# Altium integrated library Dallas Microcontroller 8-Bit.IntLib: 50 symbols (part 1 of 2)
Pins are listed as number, name and electrical type; pins without a type are passive.

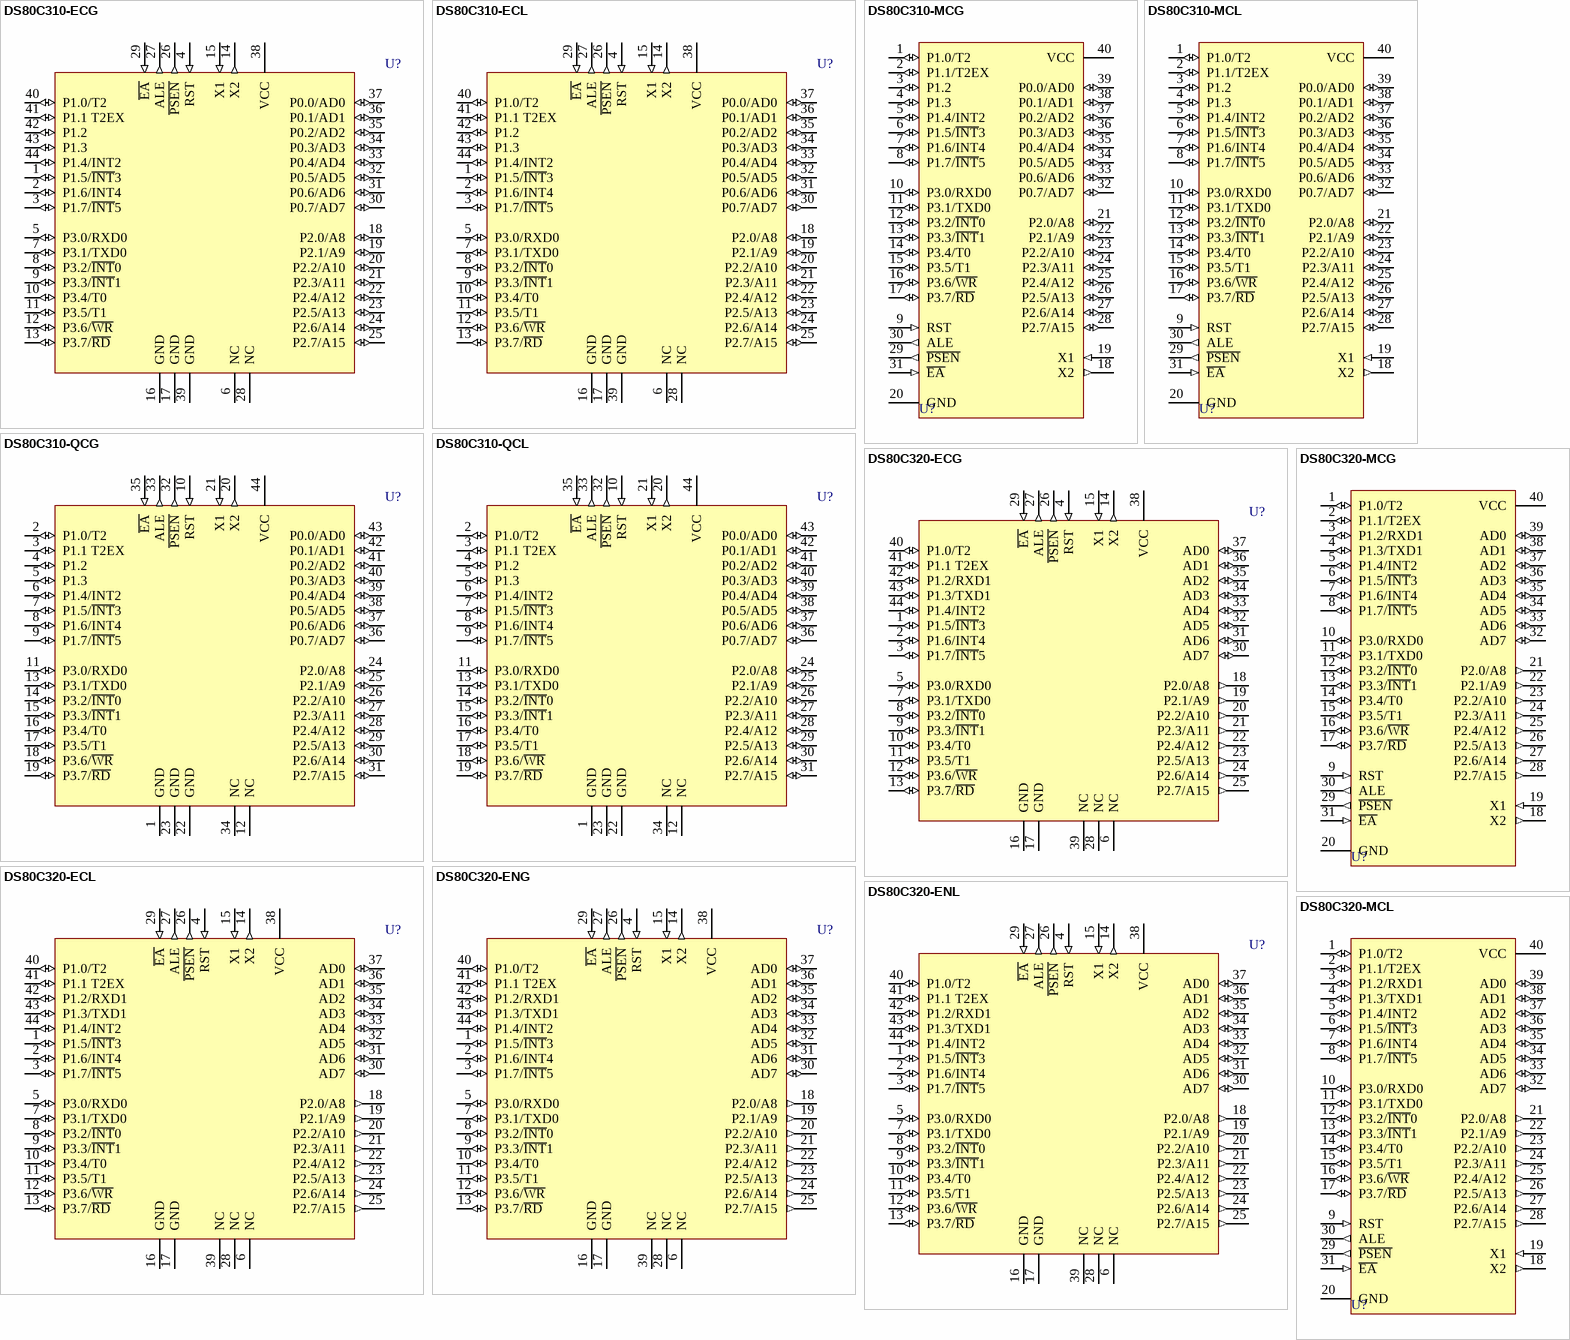
[diagram p0: symbols DS80C310-ECG to DS80C320-MCL]

## DS80C310-ECG
designator U?
High-Speed Micro; PackageDocument: 1995; Note: Pin numbers 6 and 28 are Not Connected (NC); Published: 13-Oct-2000; LatestRevisionDate: 06-Jun-2005; LatestRevisionNote: Stylized 3D Model Added.; DatasheetDocument: Sep-1998; PackageReference: TQFP44; Publisher: Altium Limited; ComponentLink1Description: Manufacturer Link; ComponentLink1URL: http://www.maxim-ic.com/; ComponentLink2Description: Datasheet; ComponentLink2URL: http://pdfserv.maxim-ic.com/en/ds/DS80C310.pdf
footprint TQFP44 (QFP; 44 Leads; Body 10 x 10 mm; Pitch 0.8 mm)
3D model DS80C310-TQFP44 (QFP; 44 Leads; Body 10 x 10 mm; Pitch 0.8 mm)
pins: 1 P1.5/~{INT}3 (io), 2 P1.6/INT4 (io), 3 P1.7/~{INT}5 (io), 4 RST (in), 5 P3.0/RXD0 (io), 6 NC, 7 P3.1/TXD0 (io), 8 P3.2/~{INT}0 (io), 9 P3.3/~{INT}1 (io), 10 P3.4/T0 (io), 11 P3.5/T1 (io), 12 P3.6/~{WR} (io), 13 P3.7/~{RD} (io), 14 X2 (out), 15 X1 (in), 16 GND (power), 17 GND (power), 18 P2.0/A8 (io), 19 P2.1/A9 (io), 20 P2.2/A10 (io), 21 P2.3/A11 (io), 22 P2.4/A12 (io), 23 P2.5/A13 (io), 24 P2.6/A14 (io), 25 P2.7/A15 (io), 26 ~{PSEN} (out), 27 ALE (out), 28 NC, 29 ~{EA} (in), 30 P0.7/AD7 (io), 31 P0.6/AD6 (io), 32 P0.5/AD5 (io), 33 P0.4/AD4 (io), 34 P0.3/AD3 (io), 35 P0.2/AD2 (io), 36 P0.1/AD1 (io), 37 P0.0/AD0 (io), 38 VCC (power), 39 GND (power), 40 P1.0/T2 (io), 41 P1.1 T2EX (io), 42 P1.2 (io), 43 P1.3 (io), 44 P1.4/INT2 (io)

## DS80C310-ECL
designator U?
High-Speed Micro; PackageDocument: 1995; Note: Pin numbers 6 and 28 are Not Connected (NC); Published: 13-Oct-2000; LatestRevisionDate: 06-Jun-2005; LatestRevisionNote: Stylized 3D Model Added.; DatasheetDocument: Sep-1998; PackageReference: TQFP44; Publisher: Altium Limited; ComponentLink1Description: Manufacturer Link; ComponentLink1URL: http://www.maxim-ic.com/; ComponentLink2Description: Datasheet; ComponentLink2URL: http://pdfserv.maxim-ic.com/en/ds/DS80C310.pdf
footprint TQFP44 (QFP; 44 Leads; Body 10 x 10 mm; Pitch 0.8 mm)
3D model DS80C310-TQFP44 (QFP; 44 Leads; Body 10 x 10 mm; Pitch 0.8 mm)
pins: 1 P1.5/~{INT}3 (io), 2 P1.6/INT4 (io), 3 P1.7/~{INT}5 (io), 4 RST (in), 5 P3.0/RXD0 (io), 6 NC, 7 P3.1/TXD0 (io), 8 P3.2/~{INT}0 (io), 9 P3.3/~{INT}1 (io), 10 P3.4/T0 (io), 11 P3.5/T1 (io), 12 P3.6/~{WR} (io), 13 P3.7/~{RD} (io), 14 X2 (out), 15 X1 (in), 16 GND (power), 17 GND (power), 18 P2.0/A8 (io), 19 P2.1/A9 (io), 20 P2.2/A10 (io), 21 P2.3/A11 (io), 22 P2.4/A12 (io), 23 P2.5/A13 (io), 24 P2.6/A14 (io), 25 P2.7/A15 (io), 26 ~{PSEN} (out), 27 ALE (out), 28 NC, 29 ~{EA} (in), 30 P0.7/AD7 (io), 31 P0.6/AD6 (io), 32 P0.5/AD5 (io), 33 P0.4/AD4 (io), 34 P0.3/AD3 (io), 35 P0.2/AD2 (io), 36 P0.1/AD1 (io), 37 P0.0/AD0 (io), 38 VCC (power), 39 GND (power), 40 P1.0/T2 (io), 41 P1.1 T2EX (io), 42 P1.2 (io), 43 P1.3 (io), 44 P1.4/INT2 (io)

## DS80C310-MCG
designator U?
High-Speed Micro; PackageDocument: 1998; Published: 13-Oct-2000; LatestRevisionDate: 06-Jun-2005; LatestRevisionNote: Stylized 3D Model Added.; DatasheetDocument: Sep-1998; PackageReference: DIP40B; Publisher: Altium Limited; ComponentLink1Description: Manufacturer Link; ComponentLink1URL: http://www.maxim-ic.com/; ComponentLink2Description: Datasheet; ComponentLink2URL: http://pdfserv.maxim-ic.com/en/ds/DS80C310.pdf
footprint DIP40B (DIP; 40 Leads; Row Spacing 15.24 mm; Pitch 2.54 mm)
3D model DIP40B (DIP; 40 Leads; Row Spacing 15.24 mm; Pitch 2.54 mm)
pins: 1 P1.0/T2 (io), 2 P1.1/T2EX (io), 3 P1.2 (io), 4 P1.3 (io), 5 P1.4/INT2 (io), 6 P1.5/~{INT}3 (io), 7 P1.6/INT4 (io), 8 P1.7/~{INT}5 (io), 9 RST (in), 10 P3.0/RXD0 (io), 11 P3.1/TXD0 (io), 12 P3.2/~{INT}0 (io), 13 P3.3/~{INT}1 (io), 14 P3.4/T0 (io), 15 P3.5/T1 (io), 16 P3.6/~{WR} (io), 17 P3.7/~{RD} (io), 18 X2 (out), 19 X1 (in), 20 GND (power), 21 P2.0/A8 (io), 22 P2.1/A9 (io), 23 P2.2/A10 (io), 24 P2.3/A11 (io), 25 P2.4/A12 (io), 26 P2.5/A13 (io), 27 P2.6/A14 (io), 28 P2.7/A15 (io), 29 ~{PSEN} (out), 30 ALE (out), 31 ~{EA} (in), 32 P0.7/AD7 (io), 33 P0.6/AD6 (io), 34 P0.5/AD5 (io), 35 P0.4/AD4 (io), 36 P0.3/AD3 (io), 37 P0.2/AD2 (io), 38 P0.1/AD1 (io), 39 P0.0/AD0 (io), 40 VCC (power)

## DS80C310-MCL
designator U?
High-Speed Micro; PackageDocument: 1998; Published: 13-Oct-2000; LatestRevisionDate: 06-Jun-2005; LatestRevisionNote: Stylized 3D Model Added.; DatasheetDocument: Sep-1998; PackageReference: DIP40B; Publisher: Altium Limited; ComponentLink1Description: Manufacturer Link; ComponentLink1URL: http://www.maxim-ic.com/; ComponentLink2Description: Datasheet; ComponentLink2URL: http://pdfserv.maxim-ic.com/en/ds/DS80C310.pdf
footprint DIP40B (DIP; 40 Leads; Row Spacing 15.24 mm; Pitch 2.54 mm)
3D model DIP40B (DIP; 40 Leads; Row Spacing 15.24 mm; Pitch 2.54 mm)
pins: 1 P1.0/T2 (io), 2 P1.1/T2EX (io), 3 P1.2 (io), 4 P1.3 (io), 5 P1.4/INT2 (io), 6 P1.5/~{INT}3 (io), 7 P1.6/INT4 (io), 8 P1.7/~{INT}5 (io), 9 RST (in), 10 P3.0/RXD0 (io), 11 P3.1/TXD0 (io), 12 P3.2/~{INT}0 (io), 13 P3.3/~{INT}1 (io), 14 P3.4/T0 (io), 15 P3.5/T1 (io), 16 P3.6/~{WR} (io), 17 P3.7/~{RD} (io), 18 X2 (out), 19 X1 (in), 20 GND (power), 21 P2.0/A8 (io), 22 P2.1/A9 (io), 23 P2.2/A10 (io), 24 P2.3/A11 (io), 25 P2.4/A12 (io), 26 P2.5/A13 (io), 27 P2.6/A14 (io), 28 P2.7/A15 (io), 29 ~{PSEN} (out), 30 ALE (out), 31 ~{EA} (in), 32 P0.7/AD7 (io), 33 P0.6/AD6 (io), 34 P0.5/AD5 (io), 35 P0.4/AD4 (io), 36 P0.3/AD3 (io), 37 P0.2/AD2 (io), 38 P0.1/AD1 (io), 39 P0.0/AD0 (io), 40 VCC (power)

## DS80C310-QCG
designator U?
High-Speed Micro; PackageDocument: 1999; Note: Pin numbers 12 and 34 are Not Connected (NC); Published: 13-Oct-2000; LatestRevisionDate: 06-Jun-2005; LatestRevisionNote: Stylized 3D Model Added.; DatasheetDocument: Sep-1998; PackageReference: PLCC44; Publisher: Altium Limited; Code_IPC: PLCC-44; ComponentLink1Description: Manufacturer Link; ComponentLink1URL: http://www.maxim-ic.com/; ComponentLink2Description: Datasheet; ComponentLink2URL: http://pdfserv.maxim-ic.com/en/ds/DS80C310.pdf
footprint PLCC44 (Leaded Chip Carrier; 44 Leads; Body 16.5 x 16.5 mm)
3D model DS80C310-PLCC44 (Leaded Chip Carrier; 44 Leads; Body 16.5 x 16.5 mm)
pins: 1 GND (power), 2 P1.0/T2 (io), 3 P1.1 T2EX (io), 4 P1.2 (io), 5 P1.3 (io), 6 P1.4/INT2 (io), 7 P1.5/~{INT}3 (io), 8 P1.6/INT4 (io), 9 P1.7/~{INT}5 (io), 10 RST (in), 11 P3.0/RXD0 (io), 12 NC, 13 P3.1/TXD0 (io), 14 P3.2/~{INT}0 (io), 15 P3.3/~{INT}1 (io), 16 P3.4/T0 (io), 17 P3.5/T1 (io), 18 P3.6/~{WR} (io), 19 P3.7/~{RD} (io), 20 X2 (out), 21 X1 (in), 22 GND (power), 23 GND (power), 24 P2.0/A8 (io), 25 P2.1/A9 (io), 26 P2.2/A10 (io), 27 P2.3/A11 (io), 28 P2.4/A12 (io), 29 P2.5/A13 (io), 30 P2.6/A14 (io), 31 P2.7/A15 (io), 32 ~{PSEN} (out), 33 ALE (out), 34 NC, 35 ~{EA} (in), 36 P0.7/AD7 (io), 37 P0.6/AD6 (io), 38 P0.5/AD5 (io), 39 P0.4/AD4 (io), 40 P0.3/AD3 (io), 41 P0.2/AD2 (io), 42 P0.1/AD1 (io), 43 P0.0/AD0 (io), 44 VCC (power)

## DS80C310-QCL
designator U?
High-Speed Micro; PackageDocument: 1999; Note: Pin numbers 12 and 34 are Not Connected (NC); Published: 13-Oct-2000; LatestRevisionDate: 06-Jun-2005; LatestRevisionNote: Stylized 3D Model Added.; DatasheetDocument: Sep-1998; PackageReference: PLCC44; Publisher: Altium Limited; Code_IPC: PLCC-44; ComponentLink1Description: Manufacturer Link; ComponentLink1URL: http://www.maxim-ic.com/; ComponentLink2Description: Datasheet; ComponentLink2URL: http://pdfserv.maxim-ic.com/en/ds/DS80C310.pdf
footprint PLCC44 (Leaded Chip Carrier; 44 Leads; Body 16.5 x 16.5 mm)
3D model DS80C310-PLCC44 (Leaded Chip Carrier; 44 Leads; Body 16.5 x 16.5 mm)
pins: 1 GND (power), 2 P1.0/T2 (io), 3 P1.1 T2EX (io), 4 P1.2 (io), 5 P1.3 (io), 6 P1.4/INT2 (io), 7 P1.5/~{INT}3 (io), 8 P1.6/INT4 (io), 9 P1.7/~{INT}5 (io), 10 RST (in), 11 P3.0/RXD0 (io), 12 NC, 13 P3.1/TXD0 (io), 14 P3.2/~{INT}0 (io), 15 P3.3/~{INT}1 (io), 16 P3.4/T0 (io), 17 P3.5/T1 (io), 18 P3.6/~{WR} (io), 19 P3.7/~{RD} (io), 20 X2 (out), 21 X1 (in), 22 GND (power), 23 GND (power), 24 P2.0/A8 (io), 25 P2.1/A9 (io), 26 P2.2/A10 (io), 27 P2.3/A11 (io), 28 P2.4/A12 (io), 29 P2.5/A13 (io), 30 P2.6/A14 (io), 31 P2.7/A15 (io), 32 ~{PSEN} (out), 33 ALE (out), 34 NC, 35 ~{EA} (in), 36 P0.7/AD7 (io), 37 P0.6/AD6 (io), 38 P0.5/AD5 (io), 39 P0.4/AD4 (io), 40 P0.3/AD3 (io), 41 P0.2/AD2 (io), 42 P0.1/AD1 (io), 43 P0.0/AD0 (io), 44 VCC (power)

## DS80C320-ECG
designator U?
High-Speed/Low-Power Micro; PackageDocument: 1995; Note: Pin numbers 6, 28 and 39 are Not Connected (NC); Published: 13-Oct-2000; LatestRevisionDate: 06-Jun-2005; LatestRevisionNote: Stylized 3D Model Added.; DatasheetDocument: 22-Sep-1999; PackageReference: TQFP44; Publisher: Altium Limited; ComponentLink1Description: Manufacturer Link; ComponentLink1URL: http://www.maxim-ic.com/; ComponentLink2Description: Datasheet; ComponentLink2URL: http://pdfserv.maxim-ic.com/en/ds/DS80C320.pdf
footprint TQFP44 (QFP; 44 Leads; Body 10 x 10 mm; Pitch 0.8 mm)
3D model DS80C320-TQFP44 (QFP; 44 Leads; Body 10 x 10 mm; Pitch 0.8 mm)
pins: 1 P1.5/~{INT}3 (io), 2 P1.6/INT4 (io), 3 P1.7/~{INT}5 (io), 4 RST (in), 5 P3.0/RXD0 (io), 6 NC, 7 P3.1/TXD0 (io), 8 P3.2/~{INT}0 (io), 9 P3.3/~{INT}1 (io), 10 P3.4/T0 (io), 11 P3.5/T1 (io), 12 P3.6/~{WR} (io), 13 P3.7/~{RD} (io), 14 X2 (out), 15 X1 (in), 16 GND (power), 17 GND (power), 18 P2.0/A8 (out), 19 P2.1/A9 (out), 20 P2.2/A10 (out), 21 P2.3/A11 (out), 22 P2.4/A12 (out), 23 P2.5/A13 (out), 24 P2.6/A14 (out), 25 P2.7/A15 (out), 26 ~{PSEN} (out), 27 ALE (out), 28 NC, 29 ~{EA} (in), 30 AD7 (io), 31 AD6 (io), 32 AD5 (io), 33 AD4 (io), 34 AD3 (io), 35 AD2 (io), 36 AD1 (io), 37 AD0 (io), 38 VCC (power), 39 NC, 40 P1.0/T2 (io), 41 P1.1 T2EX (io), 42 P1.2/RXD1 (io), 43 P1.3/TXD1 (io), 44 P1.4/INT2 (io)

## DS80C320-ECL
designator U?
High-Speed/Low-Power Micro; PackageDocument: 1995; Note: Pin numbers 6, 28 and 39 are Not Connected (NC); Published: 13-Oct-2000; LatestRevisionDate: 06-Jun-2005; LatestRevisionNote: Stylized 3D Model Added.; DatasheetDocument: 22-Sep-1999; PackageReference: TQFP44; Publisher: Altium Limited; ComponentLink1Description: Manufacturer Link; ComponentLink1URL: http://www.maxim-ic.com/; ComponentLink2Description: Datasheet; ComponentLink2URL: http://pdfserv.maxim-ic.com/en/ds/DS80C320.pdf
footprint TQFP44 (QFP; 44 Leads; Body 10 x 10 mm; Pitch 0.8 mm)
3D model DS80C320-TQFP44 (QFP; 44 Leads; Body 10 x 10 mm; Pitch 0.8 mm)
pins: 1 P1.5/~{INT}3 (io), 2 P1.6/INT4 (io), 3 P1.7/~{INT}5 (io), 4 RST (in), 5 P3.0/RXD0 (io), 6 NC, 7 P3.1/TXD0 (io), 8 P3.2/~{INT}0 (io), 9 P3.3/~{INT}1 (io), 10 P3.4/T0 (io), 11 P3.5/T1 (io), 12 P3.6/~{WR} (io), 13 P3.7/~{RD} (io), 14 X2 (out), 15 X1 (in), 16 GND (power), 17 GND (power), 18 P2.0/A8 (out), 19 P2.1/A9 (out), 20 P2.2/A10 (out), 21 P2.3/A11 (out), 22 P2.4/A12 (out), 23 P2.5/A13 (out), 24 P2.6/A14 (out), 25 P2.7/A15 (out), 26 ~{PSEN} (out), 27 ALE (out), 28 NC, 29 ~{EA} (in), 30 AD7 (io), 31 AD6 (io), 32 AD5 (io), 33 AD4 (io), 34 AD3 (io), 35 AD2 (io), 36 AD1 (io), 37 AD0 (io), 38 VCC (power), 39 NC, 40 P1.0/T2 (io), 41 P1.1 T2EX (io), 42 P1.2/RXD1 (io), 43 P1.3/TXD1 (io), 44 P1.4/INT2 (io)

## DS80C320-ENG
designator U?
High-Speed/Low-Power Micro; PackageDocument: 1995; Note: Pin numbers 6, 28 and 39 are Not Connected (NC); Published: 13-Oct-2000; LatestRevisionDate: 06-Jun-2005; LatestRevisionNote: Stylized 3D Model Added.; DatasheetDocument: 22-Sep-1999; PackageReference: TQFP44; Publisher: Altium Limited; ComponentLink1Description: Manufacturer Link; ComponentLink1URL: http://www.maxim-ic.com/; ComponentLink2Description: Datasheet; ComponentLink2URL: http://pdfserv.maxim-ic.com/en/ds/DS80C320.pdf
footprint TQFP44 (QFP; 44 Leads; Body 10 x 10 mm; Pitch 0.8 mm)
3D model DS80C320-TQFP44 (QFP; 44 Leads; Body 10 x 10 mm; Pitch 0.8 mm)
pins: 1 P1.5/~{INT}3 (io), 2 P1.6/INT4 (io), 3 P1.7/~{INT}5 (io), 4 RST (in), 5 P3.0/RXD0 (io), 6 NC, 7 P3.1/TXD0 (io), 8 P3.2/~{INT}0 (io), 9 P3.3/~{INT}1 (io), 10 P3.4/T0 (io), 11 P3.5/T1 (io), 12 P3.6/~{WR} (io), 13 P3.7/~{RD} (io), 14 X2 (out), 15 X1 (in), 16 GND (power), 17 GND (power), 18 P2.0/A8 (out), 19 P2.1/A9 (out), 20 P2.2/A10 (out), 21 P2.3/A11 (out), 22 P2.4/A12 (out), 23 P2.5/A13 (out), 24 P2.6/A14 (out), 25 P2.7/A15 (out), 26 ~{PSEN} (out), 27 ALE (out), 28 NC, 29 ~{EA} (in), 30 AD7 (io), 31 AD6 (io), 32 AD5 (io), 33 AD4 (io), 34 AD3 (io), 35 AD2 (io), 36 AD1 (io), 37 AD0 (io), 38 VCC (power), 39 NC, 40 P1.0/T2 (io), 41 P1.1 T2EX (io), 42 P1.2/RXD1 (io), 43 P1.3/TXD1 (io), 44 P1.4/INT2 (io)

## DS80C320-ENL
designator U?
High-Speed/Low-Power Micro; PackageDocument: 1995; Note: Pin numbers 6, 28 and 39 are Not Connected (NC); Published: 13-Oct-2000; LatestRevisionDate: 06-Jun-2005; LatestRevisionNote: Stylized 3D Model Added.; DatasheetDocument: 22-Sep-1999; PackageReference: TQFP44; Publisher: Altium Limited; ComponentLink1Description: Manufacturer Link; ComponentLink1URL: http://www.maxim-ic.com/; ComponentLink2Description: Datasheet; ComponentLink2URL: http://pdfserv.maxim-ic.com/en/ds/DS80C320.pdf; ComponentLink3Description: Discontinuation Notice; ComponentLink3URL: http://www.maxim-ic.com/qa/pdfs/non-obsolescence-letter.pdf
footprint TQFP44 (QFP; 44 Leads; Body 10 x 10 mm; Pitch 0.8 mm)
3D model DS80C320-TQFP44 (QFP; 44 Leads; Body 10 x 10 mm; Pitch 0.8 mm)
pins: 1 P1.5/~{INT}3 (io), 2 P1.6/INT4 (io), 3 P1.7/~{INT}5 (io), 4 RST (in), 5 P3.0/RXD0 (io), 6 NC, 7 P3.1/TXD0 (io), 8 P3.2/~{INT}0 (io), 9 P3.3/~{INT}1 (io), 10 P3.4/T0 (io), 11 P3.5/T1 (io), 12 P3.6/~{WR} (io), 13 P3.7/~{RD} (io), 14 X2 (out), 15 X1 (in), 16 GND (power), 17 GND (power), 18 P2.0/A8 (out), 19 P2.1/A9 (out), 20 P2.2/A10 (out), 21 P2.3/A11 (out), 22 P2.4/A12 (out), 23 P2.5/A13 (out), 24 P2.6/A14 (out), 25 P2.7/A15 (out), 26 ~{PSEN} (out), 27 ALE (out), 28 NC, 29 ~{EA} (in), 30 AD7 (io), 31 AD6 (io), 32 AD5 (io), 33 AD4 (io), 34 AD3 (io), 35 AD2 (io), 36 AD1 (io), 37 AD0 (io), 38 VCC (power), 39 NC, 40 P1.0/T2 (io), 41 P1.1 T2EX (io), 42 P1.2/RXD1 (io), 43 P1.3/TXD1 (io), 44 P1.4/INT2 (io)

## DS80C320-MCG
designator U?
High-Speed/Low-Power Micro; PackageDocument: 1998; Published: 13-Oct-2000; LatestRevisionDate: 06-Jun-2005; LatestRevisionNote: Stylized 3D Model Added.; DatasheetDocument: 22-Sep-1999; PackageReference: DIP40B; Publisher: Altium Limited; ComponentLink1Description: Manufacturer Link; ComponentLink1URL: http://www.maxim-ic.com/; ComponentLink2Description: Datasheet; ComponentLink2URL: http://pdfserv.maxim-ic.com/en/ds/DS80C320.pdf
footprint DIP40B (DIP; 40 Leads; Row Spacing 15.24 mm; Pitch 2.54 mm)
12/04/2005 DIP40B (DIP; 40 Leads; Row Spacing 15.24 mm; Pitch 2.54 mm)
pins: 1 P1.0/T2 (io), 2 P1.1/T2EX (io), 3 P1.2/RXD1 (io), 4 P1.3/TXD1 (io), 5 P1.4/INT2 (io), 6 P1.5/~{INT}3 (io), 7 P1.6/INT4 (io), 8 P1.7/~{INT}5 (io), 9 RST (in), 10 P3.0/RXD0 (io), 11 P3.1/TXD0 (io), 12 P3.2/~{INT}0 (io), 13 P3.3/~{INT}1 (io), 14 P3.4/T0 (io), 15 P3.5/T1 (io), 16 P3.6/~{WR} (io), 17 P3.7/~{RD} (io), 18 X2 (out), 19 X1 (in), 20 GND (power), 21 P2.0/A8 (out), 22 P2.1/A9 (out), 23 P2.2/A10 (out), 24 P2.3/A11 (out), 25 P2.4/A12 (out), 26 P2.5/A13 (out), 27 P2.6/A14 (out), 28 P2.7/A15 (out), 29 ~{PSEN} (out), 30 ALE (out), 31 ~{EA} (in), 32 AD7 (io), 33 AD6 (io), 34 AD5 (io), 35 AD4 (io), 36 AD3 (io), 37 AD2 (io), 38 AD1 (io), 39 AD0 (io), 40 VCC (power)

## DS80C320-MCL
designator U?
High-Speed/Low-Power Micro; PackageDocument: 1998; Published: 13-Oct-2000; LatestRevisionDate: 06-Jun-2005; LatestRevisionNote: Stylized 3D Model Added.; DatasheetDocument: 22-Sep-1999; PackageReference: DIP40B; Publisher: Altium Limited; ComponentLink1Description: Manufacturer Link; ComponentLink1URL: http://www.maxim-ic.com/; ComponentLink2Description: Datasheet; ComponentLink2URL: http://pdfserv.maxim-ic.com/en/ds/DS80C320.pdf
footprint DIP40B (DIP; 40 Leads; Row Spacing 15.24 mm; Pitch 2.54 mm)
3D model DIP40B (DIP; 40 Leads; Row Spacing 15.24 mm; Pitch 2.54 mm)
pins: 1 P1.0/T2 (io), 2 P1.1/T2EX (io), 3 P1.2/RXD1 (io), 4 P1.3/TXD1 (io), 5 P1.4/INT2 (io), 6 P1.5/~{INT}3 (io), 7 P1.6/INT4 (io), 8 P1.7/~{INT}5 (io), 9 RST (in), 10 P3.0/RXD0 (io), 11 P3.1/TXD0 (io), 12 P3.2/~{INT}0 (io), 13 P3.3/~{INT}1 (io), 14 P3.4/T0 (io), 15 P3.5/T1 (io), 16 P3.6/~{WR} (io), 17 P3.7/~{RD} (io), 18 X2 (out), 19 X1 (in), 20 GND (power), 21 P2.0/A8 (out), 22 P2.1/A9 (out), 23 P2.2/A10 (out), 24 P2.3/A11 (out), 25 P2.4/A12 (out), 26 P2.5/A13 (out), 27 P2.6/A14 (out), 28 P2.7/A15 (out), 29 ~{PSEN} (out), 30 ALE (out), 31 ~{EA} (in), 32 AD7 (io), 33 AD6 (io), 34 AD5 (io), 35 AD4 (io), 36 AD3 (io), 37 AD2 (io), 38 AD1 (io), 39 AD0 (io), 40 VCC (power)

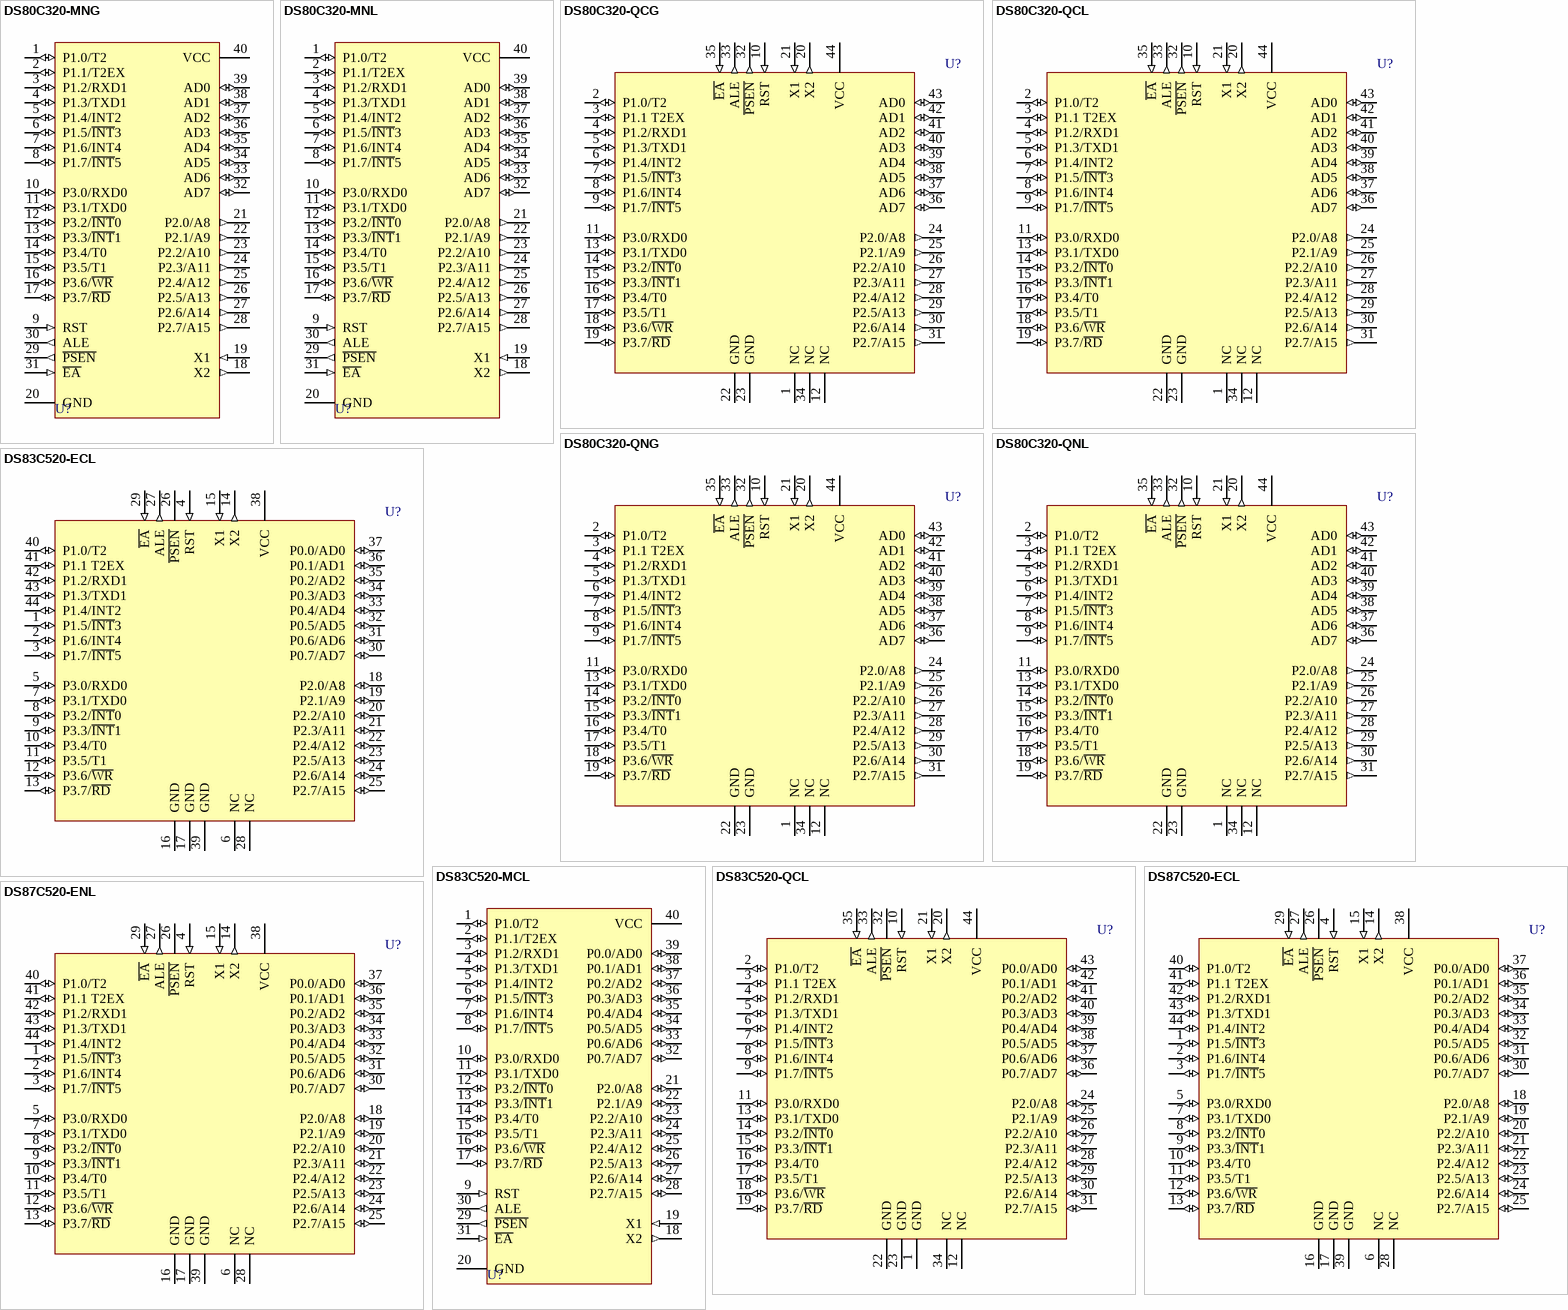
[diagram p1: symbols DS80C320-MNG to DS87C520-ENL]

## DS80C320-MNG
designator U?
High-Speed/Low-Power Micro; PackageDocument: 1998; Published: 13-Oct-2000; LatestRevisionDate: 06-Jun-2005; LatestRevisionNote: Stylized 3D Model Added.; DatasheetDocument: 22-Sep-1999; PackageReference: DIP40B; Publisher: Altium Limited; ComponentLink1Description: Manufacturer Link; ComponentLink1URL: http://www.maxim-ic.com/; ComponentLink2Description: Datasheet; ComponentLink2URL: http://pdfserv.maxim-ic.com/en/ds/DS80C320.pdf
footprint DIP40B (DIP; 40 Leads; Row Spacing 15.24 mm; Pitch 2.54 mm)
3D model DIP40B (DIP; 40 Leads; Row Spacing 15.24 mm; Pitch 2.54 mm)
pins: 1 P1.0/T2 (io), 2 P1.1/T2EX (io), 3 P1.2/RXD1 (io), 4 P1.3/TXD1 (io), 5 P1.4/INT2 (io), 6 P1.5/~{INT}3 (io), 7 P1.6/INT4 (io), 8 P1.7/~{INT}5 (io), 9 RST (in), 10 P3.0/RXD0 (io), 11 P3.1/TXD0 (io), 12 P3.2/~{INT}0 (io), 13 P3.3/~{INT}1 (io), 14 P3.4/T0 (io), 15 P3.5/T1 (io), 16 P3.6/~{WR} (io), 17 P3.7/~{RD} (io), 18 X2 (out), 19 X1 (in), 20 GND (power), 21 P2.0/A8 (out), 22 P2.1/A9 (out), 23 P2.2/A10 (out), 24 P2.3/A11 (out), 25 P2.4/A12 (out), 26 P2.5/A13 (out), 27 P2.6/A14 (out), 28 P2.7/A15 (out), 29 ~{PSEN} (out), 30 ALE (out), 31 ~{EA} (in), 32 AD7 (io), 33 AD6 (io), 34 AD5 (io), 35 AD4 (io), 36 AD3 (io), 37 AD2 (io), 38 AD1 (io), 39 AD0 (io), 40 VCC (power)

## DS80C320-MNL
designator U?
High-Speed/Low-Power Micro; PackageDocument: 1998; Published: 13-Oct-2000; LatestRevisionDate: 06-Jun-2005; LatestRevisionNote: Stylized 3D Model Added.; DatasheetDocument: 22-Sep-1999; PackageReference: DIP40B; Publisher: Altium Limited; ComponentLink1Description: Manufacturer Link; ComponentLink1URL: http://www.maxim-ic.com/; ComponentLink2Description: Datasheet; ComponentLink2URL: http://pdfserv.maxim-ic.com/en/ds/DS80C320.pdf
footprint DIP40B (DIP; 40 Leads; Row Spacing 15.24 mm; Pitch 2.54 mm)
3D model DIP40B (DIP; 40 Leads; Row Spacing 15.24 mm; Pitch 2.54 mm)
pins: 1 P1.0/T2 (io), 2 P1.1/T2EX (io), 3 P1.2/RXD1 (io), 4 P1.3/TXD1 (io), 5 P1.4/INT2 (io), 6 P1.5/~{INT}3 (io), 7 P1.6/INT4 (io), 8 P1.7/~{INT}5 (io), 9 RST (in), 10 P3.0/RXD0 (io), 11 P3.1/TXD0 (io), 12 P3.2/~{INT}0 (io), 13 P3.3/~{INT}1 (io), 14 P3.4/T0 (io), 15 P3.5/T1 (io), 16 P3.6/~{WR} (io), 17 P3.7/~{RD} (io), 18 X2 (out), 19 X1 (in), 20 GND (power), 21 P2.0/A8 (out), 22 P2.1/A9 (out), 23 P2.2/A10 (out), 24 P2.3/A11 (out), 25 P2.4/A12 (out), 26 P2.5/A13 (out), 27 P2.6/A14 (out), 28 P2.7/A15 (out), 29 ~{PSEN} (out), 30 ALE (out), 31 ~{EA} (in), 32 AD7 (io), 33 AD6 (io), 34 AD5 (io), 35 AD4 (io), 36 AD3 (io), 37 AD2 (io), 38 AD1 (io), 39 AD0 (io), 40 VCC (power)

## DS80C320-QCG
designator U?
High-Speed/Low-Power Micro; PackageDocument: 1999; Note: Pin numbers 1, 12 and 34 are Not Connected (NC); Published: 13-Oct-2000; LatestRevisionDate: 06-Jun-2005; LatestRevisionNote: Stylized 3D Model Added.; DatasheetDocument: 22-Sep-1999; PackageReference: PLCC44; Publisher: Altium Limited; Code_IPC: PLCC-44; ComponentLink1Description: Manufacturer Link; ComponentLink1URL: http://www.maxim-ic.com/; ComponentLink2Description: Datasheet; ComponentLink2URL: http://pdfserv.maxim-ic.com/en/ds/DS80C320.pdf
footprint PLCC44 (Leaded Chip Carrier; 44 Leads; Body 16.5 x 16.5 mm)
3D model DS80C320-PLCC44 (Leaded Chip Carrier; 44 Leads; Body 16.5 x 16.5 mm)
pins: 1 NC, 2 P1.0/T2 (io), 3 P1.1 T2EX (io), 4 P1.2/RXD1 (io), 5 P1.3/TXD1 (io), 6 P1.4/INT2 (io), 7 P1.5/~{INT}3 (io), 8 P1.6/INT4 (io), 9 P1.7/~{INT}5 (io), 10 RST (in), 11 P3.0/RXD0 (io), 12 NC, 13 P3.1/TXD0 (io), 14 P3.2/~{INT}0 (io), 15 P3.3/~{INT}1 (io), 16 P3.4/T0 (io), 17 P3.5/T1 (io), 18 P3.6/~{WR} (io), 19 P3.7/~{RD} (io), 20 X2 (out), 21 X1 (in), 22 GND (power), 23 GND (power), 24 P2.0/A8 (out), 25 P2.1/A9 (out), 26 P2.2/A10 (out), 27 P2.3/A11 (out), 28 P2.4/A12 (out), 29 P2.5/A13 (out), 30 P2.6/A14 (out), 31 P2.7/A15 (out), 32 ~{PSEN} (out), 33 ALE (out), 34 NC, 35 ~{EA} (in), 36 AD7 (io), 37 AD6 (io), 38 AD5 (io), 39 AD4 (io), 40 AD3 (io), 41 AD2 (io), 42 AD1 (io), 43 AD0 (io), 44 VCC (power)

## DS80C320-QCL
designator U?
High-Speed/Low-Power Micro; PackageDocument: 1999; Note: Pin numbers 1, 12 and 34 are Not Connected (NC); Published: 13-Oct-2000; LatestRevisionDate: 06-Jun-2005; LatestRevisionNote: Stylized 3D Model Added.; DatasheetDocument: 22-Sep-1999; PackageReference: PLCC44; Publisher: Altium Limited; Code_IPC: PLCC-44; ComponentLink1Description: Manufacturer Link; ComponentLink1URL: http://www.maxim-ic.com/; ComponentLink2Description: Datasheet; ComponentLink2URL: http://pdfserv.maxim-ic.com/en/ds/DS80C320.pdf
footprint PLCC44 (Leaded Chip Carrier; 44 Leads; Body 16.5 x 16.5 mm)
3D model DS80C320-PLCC44 (Leaded Chip Carrier; 44 Leads; Body 16.5 x 16.5 mm)
pins: 1 NC, 2 P1.0/T2 (io), 3 P1.1 T2EX (io), 4 P1.2/RXD1 (io), 5 P1.3/TXD1 (io), 6 P1.4/INT2 (io), 7 P1.5/~{INT}3 (io), 8 P1.6/INT4 (io), 9 P1.7/~{INT}5 (io), 10 RST (in), 11 P3.0/RXD0 (io), 12 NC, 13 P3.1/TXD0 (io), 14 P3.2/~{INT}0 (io), 15 P3.3/~{INT}1 (io), 16 P3.4/T0 (io), 17 P3.5/T1 (io), 18 P3.6/~{WR} (io), 19 P3.7/~{RD} (io), 20 X2 (out), 21 X1 (in), 22 GND (power), 23 GND (power), 24 P2.0/A8 (out), 25 P2.1/A9 (out), 26 P2.2/A10 (out), 27 P2.3/A11 (out), 28 P2.4/A12 (out), 29 P2.5/A13 (out), 30 P2.6/A14 (out), 31 P2.7/A15 (out), 32 ~{PSEN} (out), 33 ALE (out), 34 NC, 35 ~{EA} (in), 36 AD7 (io), 37 AD6 (io), 38 AD5 (io), 39 AD4 (io), 40 AD3 (io), 41 AD2 (io), 42 AD1 (io), 43 AD0 (io), 44 VCC (power)

## DS80C320-QNG
designator U?
High-Speed/Low-Power Micro; PackageDocument: 1999; Note: Pin numbers 1, 12 and 34 are Not Connected (NC); Published: 13-Oct-2000; LatestRevisionDate: 06-Jun-2005; LatestRevisionNote: Stylized 3D Model Added.; DatasheetDocument: 22-Sep-1999; PackageReference: PLCC44; Publisher: Altium Limited; Code_IPC: PLCC-44; ComponentLink1Description: Manufacturer Link; ComponentLink1URL: http://www.maxim-ic.com/; ComponentLink2Description: Datasheet; ComponentLink2URL: http://pdfserv.maxim-ic.com/en/ds/DS80C320.pdf
footprint PLCC44 (Leaded Chip Carrier; 44 Leads; Body 16.5 x 16.5 mm)
3D model DS80C320-PLCC44 (Leaded Chip Carrier; 44 Leads; Body 16.5 x 16.5 mm)
pins: 1 NC, 2 P1.0/T2 (io), 3 P1.1 T2EX (io), 4 P1.2/RXD1 (io), 5 P1.3/TXD1 (io), 6 P1.4/INT2 (io), 7 P1.5/~{INT}3 (io), 8 P1.6/INT4 (io), 9 P1.7/~{INT}5 (io), 10 RST (in), 11 P3.0/RXD0 (io), 12 NC, 13 P3.1/TXD0 (io), 14 P3.2/~{INT}0 (io), 15 P3.3/~{INT}1 (io), 16 P3.4/T0 (io), 17 P3.5/T1 (io), 18 P3.6/~{WR} (io), 19 P3.7/~{RD} (io), 20 X2 (out), 21 X1 (in), 22 GND (power), 23 GND (power), 24 P2.0/A8 (out), 25 P2.1/A9 (out), 26 P2.2/A10 (out), 27 P2.3/A11 (out), 28 P2.4/A12 (out), 29 P2.5/A13 (out), 30 P2.6/A14 (out), 31 P2.7/A15 (out), 32 ~{PSEN} (out), 33 ALE (out), 34 NC, 35 ~{EA} (in), 36 AD7 (io), 37 AD6 (io), 38 AD5 (io), 39 AD4 (io), 40 AD3 (io), 41 AD2 (io), 42 AD1 (io), 43 AD0 (io), 44 VCC (power)

## DS80C320-QNL
designator U?
High-Speed/Low-Power Micro; PackageDocument: 1999; Note: Pin numbers 1, 12 and 34 are Not Connected (NC); Published: 13-Oct-2000; LatestRevisionDate: 06-Jun-2005; LatestRevisionNote: Stylized 3D Model Added.; DatasheetDocument: 22-Sep-1999; PackageReference: PLCC44; Publisher: Altium Limited; Code_IPC: PLCC-44; ComponentLink1Description: Manufacturer Link; ComponentLink1URL: http://www.maxim-ic.com/; ComponentLink2Description: Datasheet; ComponentLink2URL: http://pdfserv.maxim-ic.com/en/ds/DS80C320.pdf
footprint PLCC44 (Leaded Chip Carrier; 44 Leads; Body 16.5 x 16.5 mm)
3D model DS80C320-PLCC44 (Leaded Chip Carrier; 44 Leads; Body 16.5 x 16.5 mm)
pins: 1 NC, 2 P1.0/T2 (io), 3 P1.1 T2EX (io), 4 P1.2/RXD1 (io), 5 P1.3/TXD1 (io), 6 P1.4/INT2 (io), 7 P1.5/~{INT}3 (io), 8 P1.6/INT4 (io), 9 P1.7/~{INT}5 (io), 10 RST (in), 11 P3.0/RXD0 (io), 12 NC, 13 P3.1/TXD0 (io), 14 P3.2/~{INT}0 (io), 15 P3.3/~{INT}1 (io), 16 P3.4/T0 (io), 17 P3.5/T1 (io), 18 P3.6/~{WR} (io), 19 P3.7/~{RD} (io), 20 X2 (out), 21 X1 (in), 22 GND (power), 23 GND (power), 24 P2.0/A8 (out), 25 P2.1/A9 (out), 26 P2.2/A10 (out), 27 P2.3/A11 (out), 28 P2.4/A12 (out), 29 P2.5/A13 (out), 30 P2.6/A14 (out), 31 P2.7/A15 (out), 32 ~{PSEN} (out), 33 ALE (out), 34 NC, 35 ~{EA} (in), 36 AD7 (io), 37 AD6 (io), 38 AD5 (io), 39 AD4 (io), 40 AD3 (io), 41 AD2 (io), 42 AD1 (io), 43 AD0 (io), 44 VCC (power)

## DS83C520-ECL
designator U?
EPROM/ROM High-Speed Micro; PackageDocument: 1995; Note: Pin numbers 6 and 28 are Not Connected (NC); Published: 13-Oct-2000; LatestRevisionDate: 06-Jun-2005; LatestRevisionNote: Stylized 3D Model Added.; DatasheetDocument: 7-Jul-1998; PackageReference: TQFP44; Publisher: Altium Limited; ComponentLink1Description: Manufacturer Link; ComponentLink1URL: http://www.maxim-ic.com/; ComponentLink2Description: Datasheet; ComponentLink2URL: http://pdfserv.maxim-ic.com/en/ds/DS87C520.pdf; ComponentLink3Description: Discontinuation Notice; ComponentLink3URL: http://www.maxim-ic.com/qa/pdfs/non-obsolescence-letter.pdf
footprint TQFP44 (QFP; 44 Leads; Body 10 x 10 mm; Pitch 0.8 mm)
3D model DS83C520-TQFP44 (QFP; 44 Leads; Body 10 x 10 mm; Pitch 0.8 mm)
pins: 1 P1.5/~{INT}3 (io), 2 P1.6/INT4 (io), 3 P1.7/~{INT}5 (io), 4 RST (in), 5 P3.0/RXD0 (io), 6 NC, 7 P3.1/TXD0 (io), 8 P3.2/~{INT}0 (io), 9 P3.3/~{INT}1 (io), 10 P3.4/T0 (io), 11 P3.5/T1 (io), 12 P3.6/~{WR} (io), 13 P3.7/~{RD} (io), 14 X2 (out), 15 X1 (in), 16 GND (power), 17 GND (power), 18 P2.0/A8 (io), 19 P2.1/A9 (io), 20 P2.2/A10 (io), 21 P2.3/A11 (io), 22 P2.4/A12 (io), 23 P2.5/A13 (io), 24 P2.6/A14 (io), 25 P2.7/A15 (io), 26 ~{PSEN} (oc), 27 ALE (out), 28 NC, 29 ~{EA} (in), 30 P0.7/AD7 (io), 31 P0.6/AD6 (io), 32 P0.5/AD5 (io), 33 P0.4/AD4 (io), 34 P0.3/AD3 (io), 35 P0.2/AD2 (io), 36 P0.1/AD1 (io), 37 P0.0/AD0 (io), 38 VCC (power), 39 GND (power), 40 P1.0/T2 (io), 41 P1.1 T2EX (io), 42 P1.2/RXD1 (io), 43 P1.3/TXD1 (io), 44 P1.4/INT2 (io)

## DS83C520-MCL
designator U?
EPROM/ROM High-Speed Micro; PackageDocument: 1998; Published: 13-Oct-2000; LatestRevisionDate: 06-Jun-2005; LatestRevisionNote: Stylized 3D Model Added.; DatasheetDocument: 7-Jul-1998; PackageReference: DIP40B; Publisher: Altium Limited; ComponentLink1Description: Manufacturer Link; ComponentLink1URL: http://www.maxim-ic.com/; ComponentLink2Description: Datasheet; ComponentLink2URL: http://pdfserv.maxim-ic.com/en/ds/DS87C520.pdf
footprint DIP40B (DIP; 40 Leads; Row Spacing 15.24 mm; Pitch 2.54 mm)
3D model DIP40B (DIP; 40 Leads; Row Spacing 15.24 mm; Pitch 2.54 mm)
pins: 1 P1.0/T2 (io), 2 P1.1/T2EX (io), 3 P1.2/RXD1 (io), 4 P1.3/TXD1 (io), 5 P1.4/INT2 (io), 6 P1.5/~{INT}3 (io), 7 P1.6/INT4 (io), 8 P1.7/~{INT}5 (io), 9 RST (in), 10 P3.0/RXD0 (io), 11 P3.1/TXD0 (io), 12 P3.2/~{INT}0 (io), 13 P3.3/~{INT}1 (io), 14 P3.4/T0 (io), 15 P3.5/T1 (io), 16 P3.6/~{WR} (io), 17 P3.7/~{RD} (io), 18 X2 (out), 19 X1 (in), 20 GND (power), 21 P2.0/A8 (io), 22 P2.1/A9 (io), 23 P2.2/A10 (io), 24 P2.3/A11 (io), 25 P2.4/A12 (io), 26 P2.5/A13 (io), 27 P2.6/A14 (io), 28 P2.7/A15 (io), 29 ~{PSEN} (out), 30 ALE (out), 31 ~{EA} (in), 32 P0.7/AD7 (io), 33 P0.6/AD6 (io), 34 P0.5/AD5 (io), 35 P0.4/AD4 (io), 36 P0.3/AD3 (io), 37 P0.2/AD2 (io), 38 P0.1/AD1 (io), 39 P0.0/AD0 (io), 40 VCC (power)

## DS83C520-QCL
designator U?
EPROM/ROM High-Speed Micro; PackageDocument: 1999; Note: Pin numbers 12 and 34 are Not Connected (NC); Published: 13-Oct-2000; LatestRevisionDate: 06-Jun-2005; LatestRevisionNote: Stylized 3D Model Added.; DatasheetDocument: 7-Jul-1998; PackageReference: PLCC44; Publisher: Altium Limited; Code_IPC: PLCC-44; ComponentLink1Description: Manufacturer Link; ComponentLink1URL: http://www.maxim-ic.com/; ComponentLink2Description: Datasheet; ComponentLink2URL: http://pdfserv.maxim-ic.com/en/ds/DS87C520.pdf; ComponentLink3Description: Discontinuation Notice; ComponentLink3URL: http://www.maxim-ic.com/qa/pdfs/non-obsolescence-letter.pdf
footprint PLCC44 (Leaded Chip Carrier; 44 Leads; Body 16.5 x 16.5 mm)
3D model DS83C520-PLCC44 (Leaded Chip Carrier; 44 Leads; Body 16.5 x 16.5 mm)
pins: 1 GND (power), 2 P1.0/T2 (io), 3 P1.1 T2EX (io), 4 P1.2/RXD1 (io), 5 P1.3/TXD1 (io), 6 P1.4/INT2 (io), 7 P1.5/~{INT}3 (io), 8 P1.6/INT4 (io), 9 P1.7/~{INT}5 (io), 10 RST (in), 11 P3.0/RXD0 (io), 12 NC, 13 P3.1/TXD0 (io), 14 P3.2/~{INT}0 (io), 15 P3.3/~{INT}1 (io), 16 P3.4/T0 (io), 17 P3.5/T1 (io), 18 P3.6/~{WR} (io), 19 P3.7/~{RD} (io), 20 X2 (out), 21 X1 (in), 22 GND (power), 23 GND (power), 24 P2.0/A8 (io), 25 P2.1/A9 (io), 26 P2.2/A10 (io), 27 P2.3/A11 (io), 28 P2.4/A12 (io), 29 P2.5/A13 (io), 30 P2.6/A14 (io), 31 P2.7/A15 (io), 32 ~{PSEN} (oc), 33 ALE (out), 34 NC, 35 ~{EA} (in), 36 P0.7/AD7 (io), 37 P0.6/AD6 (io), 38 P0.5/AD5 (io), 39 P0.4/AD4 (io), 40 P0.3/AD3 (io), 41 P0.2/AD2 (io), 42 P0.1/AD1 (io), 43 P0.0/AD0 (io), 44 VCC (power)

## DS87C520-ECL
designator U?
EPROM/ROM High-Speed Micro; PackageDocument: 1995; Note: Pin numbers 6 and 28 are Not Connected (NC); Published: 13-Oct-2000; LatestRevisionDate: 06-Jun-2005; LatestRevisionNote: Stylized 3D Model Added.; DatasheetDocument: 7-Jul-1998; PackageReference: TQFP44; Publisher: Altium Limited; ComponentLink1Description: Manufacturer Link; ComponentLink1URL: http://www.maxim-ic.com/; ComponentLink2Description: Datasheet; ComponentLink2URL: http://pdfserv.maxim-ic.com/en/ds/DS87C520.pdf; ComponentLink3Description: Discontinuation Notice; ComponentLink3URL: http://www.maxim-ic.com/qa/pdfs/non-obsolescence-letter.pdf
footprint TQFP44 (QFP; 44 Leads; Body 10 x 10 mm; Pitch 0.8 mm)
3D model DS87C520-TQFP44 (QFP; 44 Leads; Body 10 x 10 mm; Pitch 0.8 mm)
pins: 1 P1.5/~{INT}3 (io), 2 P1.6/INT4 (io), 3 P1.7/~{INT}5 (io), 4 RST (in), 5 P3.0/RXD0 (io), 6 NC, 7 P3.1/TXD0 (io), 8 P3.2/~{INT}0 (io), 9 P3.3/~{INT}1 (io), 10 P3.4/T0 (io), 11 P3.5/T1 (io), 12 P3.6/~{WR} (io), 13 P3.7/~{RD} (io), 14 X2 (out), 15 X1 (in), 16 GND (power), 17 GND (power), 18 P2.0/A8 (io), 19 P2.1/A9 (io), 20 P2.2/A10 (io), 21 P2.3/A11 (io), 22 P2.4/A12 (io), 23 P2.5/A13 (io), 24 P2.6/A14 (io), 25 P2.7/A15 (io), 26 ~{PSEN} (oc), 27 ALE (out), 28 NC, 29 ~{EA} (in), 30 P0.7/AD7 (io), 31 P0.6/AD6 (io), 32 P0.5/AD5 (io), 33 P0.4/AD4 (io), 34 P0.3/AD3 (io), 35 P0.2/AD2 (io), 36 P0.1/AD1 (io), 37 P0.0/AD0 (io), 38 VCC (power), 39 GND (power), 40 P1.0/T2 (io), 41 P1.1 T2EX (io), 42 P1.2/RXD1 (io), 43 P1.3/TXD1 (io), 44 P1.4/INT2 (io)

## DS87C520-ENL
designator U?
EPROM/ROM High-Speed Micro; PackageDocument: 1995; Note: Pin numbers 6 and 28 are Not Connected (NC); Published: 13-Oct-2000; LatestRevisionDate: 06-Jun-2005; LatestRevisionNote: Stylized 3D Model Added.; DatasheetDocument: 7-Jul-1998; PackageReference: TQFP44; Publisher: Altium Limited; ComponentLink1Description: Manufacturer Link; ComponentLink1URL: http://www.maxim-ic.com/; ComponentLink2Description: Datasheet; ComponentLink2URL: http://pdfserv.maxim-ic.com/en/ds/DS87C520.pdf; ComponentLink3Description: Discontinuation Notice; ComponentLink3URL: http://www.maxim-ic.com/qa/pdfs/non-obsolescence-letter.pdf
footprint TQFP44 (QFP; 44 Leads; Body 10 x 10 mm; Pitch 0.8 mm)
3D model DS87C520-TQFP44 (QFP; 44 Leads; Body 10 x 10 mm; Pitch 0.8 mm)
pins: 1 P1.5/~{INT}3 (io), 2 P1.6/INT4 (io), 3 P1.7/~{INT}5 (io), 4 RST (in), 5 P3.0/RXD0 (io), 6 NC, 7 P3.1/TXD0 (io), 8 P3.2/~{INT}0 (io), 9 P3.3/~{INT}1 (io), 10 P3.4/T0 (io), 11 P3.5/T1 (io), 12 P3.6/~{WR} (io), 13 P3.7/~{RD} (io), 14 X2 (out), 15 X1 (in), 16 GND (power), 17 GND (power), 18 P2.0/A8 (io), 19 P2.1/A9 (io), 20 P2.2/A10 (io), 21 P2.3/A11 (io), 22 P2.4/A12 (io), 23 P2.5/A13 (io), 24 P2.6/A14 (io), 25 P2.7/A15 (io), 26 ~{PSEN} (oc), 27 ALE (out), 28 NC, 29 ~{EA} (in), 30 P0.7/AD7 (io), 31 P0.6/AD6 (io), 32 P0.5/AD5 (io), 33 P0.4/AD4 (io), 34 P0.3/AD3 (io), 35 P0.2/AD2 (io), 36 P0.1/AD1 (io), 37 P0.0/AD0 (io), 38 VCC (power), 39 GND (power), 40 P1.0/T2 (io), 41 P1.1 T2EX (io), 42 P1.2/RXD1 (io), 43 P1.3/TXD1 (io), 44 P1.4/INT2 (io)

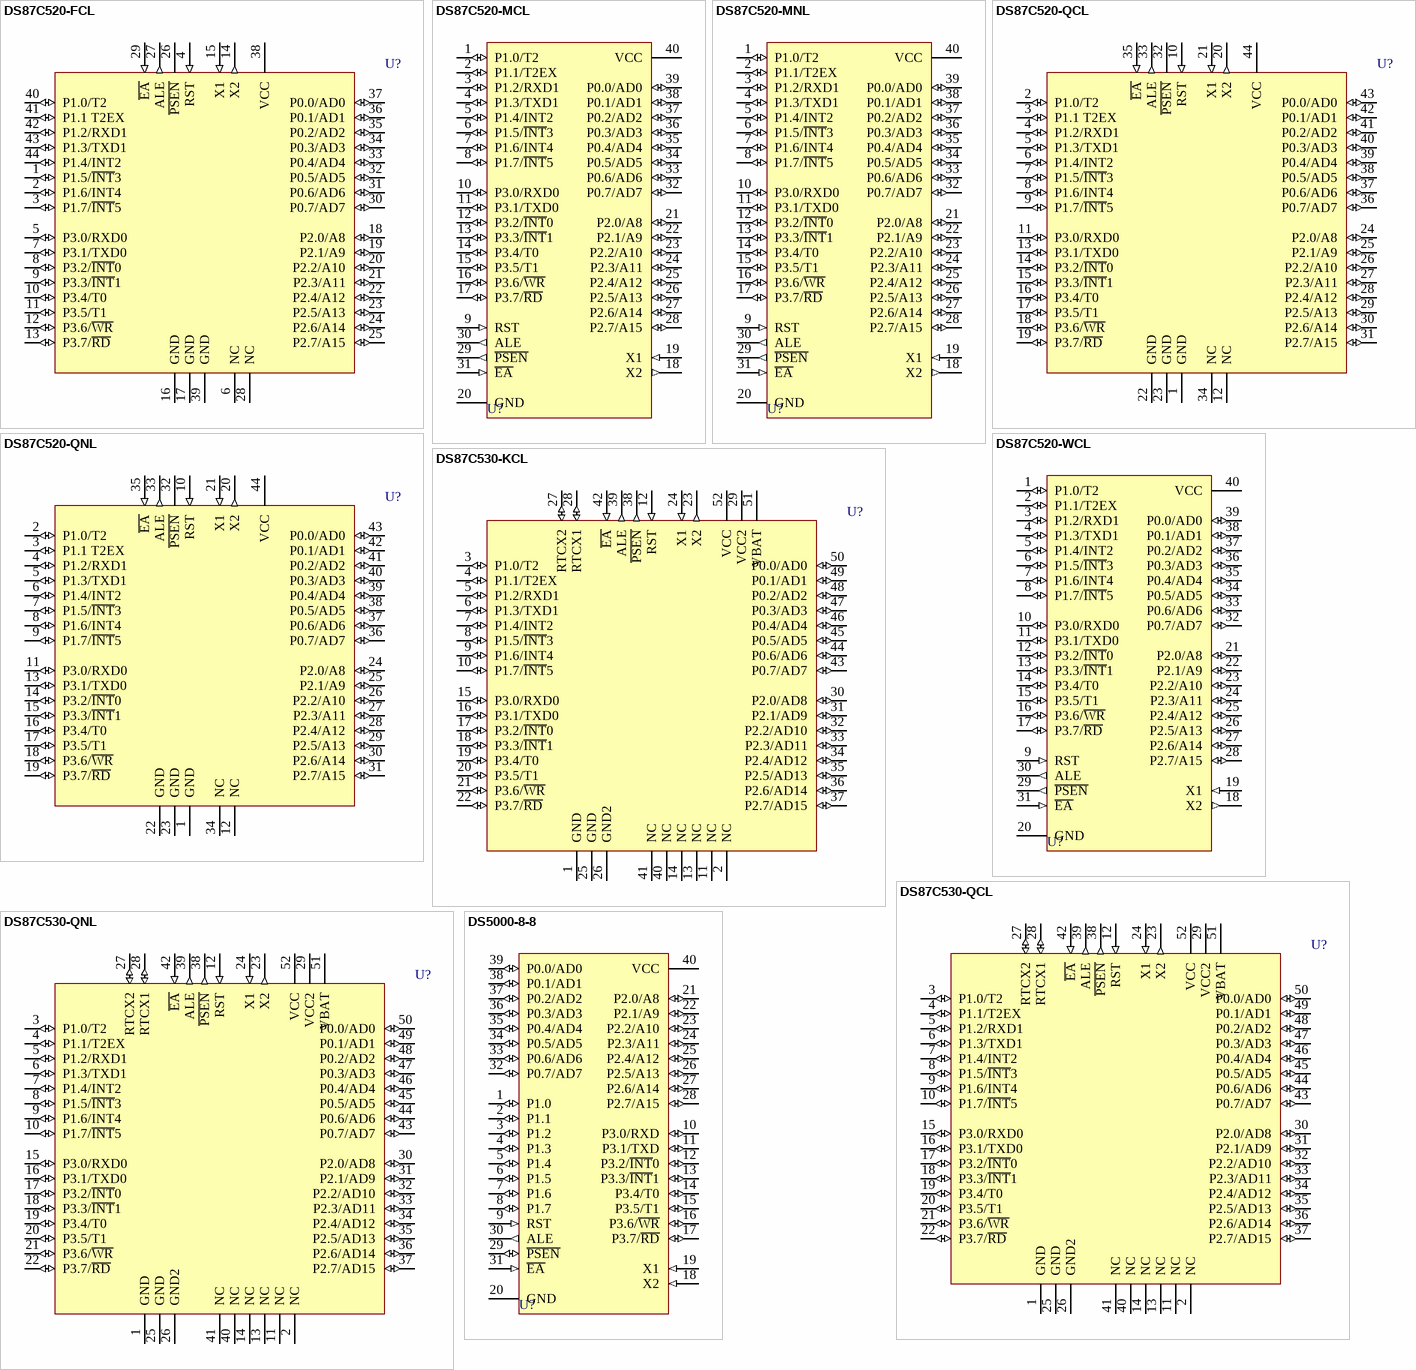
[diagram p2: symbols DS87C520-FCL to DS5000-8-8]

## DS87C520-FCL
designator U?
EPROM High-Speed Micro; Note: Pin numbers 6 and 28 are Not Connected (NC); Published: 13-Oct-2000; LatestRevisionDate: 06-Jun-2005; LatestRevisionNote: Stylized 3D Model Added.; DatasheetDocument: 7-Sep-1994; PackageReference: MQFP44NB; Publisher: Altium Limited; ComponentLink1Description: Manufacturer Link; ComponentLink1URL: http://www.maxim-ic.com/; ComponentLink2Description: Datasheet; ComponentLink2URL: http://pdfserv.maxim-ic.com/en/ds/DS87C520_C.pdf
footprint MQFP44NB (QFP; 44 Leads; Body 10 x 10 mm; Pitch 0.8 mm)
3D model DS87C520-MQFP44NB (QFP; 44 Leads; Body 10 x 10 mm; Pitch 0.8 mm)
pins: 1 P1.5/~{INT}3 (io), 2 P1.6/INT4 (io), 3 P1.7/~{INT}5 (io), 4 RST (in), 5 P3.0/RXD0 (io), 6 NC, 7 P3.1/TXD0 (io), 8 P3.2/~{INT}0 (io), 9 P3.3/~{INT}1 (io), 10 P3.4/T0 (io), 11 P3.5/T1 (io), 12 P3.6/~{WR} (io), 13 P3.7/~{RD} (io), 14 X2 (out), 15 X1 (in), 16 GND (power), 17 GND (power), 18 P2.0/A8 (io), 19 P2.1/A9 (io), 20 P2.2/A10 (io), 21 P2.3/A11 (io), 22 P2.4/A12 (io), 23 P2.5/A13 (io), 24 P2.6/A14 (io), 25 P2.7/A15 (io), 26 ~{PSEN} (oc), 27 ALE (out), 28 NC, 29 ~{EA} (in), 30 P0.7/AD7 (io), 31 P0.6/AD6 (io), 32 P0.5/AD5 (io), 33 P0.4/AD4 (io), 34 P0.3/AD3 (io), 35 P0.2/AD2 (io), 36 P0.1/AD1 (io), 37 P0.0/AD0 (io), 38 VCC (power), 39 GND (power), 40 P1.0/T2 (io), 41 P1.1 T2EX (io), 42 P1.2/RXD1 (io), 43 P1.3/TXD1 (io), 44 P1.4/INT2 (io)

## DS87C520-MCL
designator U?
EPROM/ROM High-Speed Micro; PackageDocument: 1998; Published: 13-Oct-2000; LatestRevisionDate: 06-Jun-2005; LatestRevisionNote: Stylized 3D Model Added.; DatasheetDocument: 7-Jul-1998; PackageReference: DIP40B; Publisher: Altium Limited; ComponentLink1Description: Manufacturer Link; ComponentLink1URL: http://www.maxim-ic.com/; ComponentLink2Description: Datasheet; ComponentLink2URL: http://pdfserv.maxim-ic.com/en/ds/DS87C520.pdf; ComponentLink3Description: Discontinuation Notice; ComponentLink3URL: http://www.maxim-ic.com/qa/pdfs/non-obsolescence-letter.pdf
footprint DIP40B (DIP; 40 Leads; Row Spacing 15.24 mm; Pitch 2.54 mm)
3D model DIP40B (DIP; 40 Leads; Row Spacing 15.24 mm; Pitch 2.54 mm)
pins: 1 P1.0/T2 (io), 2 P1.1/T2EX (io), 3 P1.2/RXD1 (io), 4 P1.3/TXD1 (io), 5 P1.4/INT2 (io), 6 P1.5/~{INT}3 (io), 7 P1.6/INT4 (io), 8 P1.7/~{INT}5 (io), 9 RST (in), 10 P3.0/RXD0 (io), 11 P3.1/TXD0 (io), 12 P3.2/~{INT}0 (io), 13 P3.3/~{INT}1 (io), 14 P3.4/T0 (io), 15 P3.5/T1 (io), 16 P3.6/~{WR} (io), 17 P3.7/~{RD} (io), 18 X2 (out), 19 X1 (in), 20 GND (power), 21 P2.0/A8 (io), 22 P2.1/A9 (io), 23 P2.2/A10 (io), 24 P2.3/A11 (io), 25 P2.4/A12 (io), 26 P2.5/A13 (io), 27 P2.6/A14 (io), 28 P2.7/A15 (io), 29 ~{PSEN} (out), 30 ALE (out), 31 ~{EA} (in), 32 P0.7/AD7 (io), 33 P0.6/AD6 (io), 34 P0.5/AD5 (io), 35 P0.4/AD4 (io), 36 P0.3/AD3 (io), 37 P0.2/AD2 (io), 38 P0.1/AD1 (io), 39 P0.0/AD0 (io), 40 VCC (power)

## DS87C520-MNL
designator U?
EPROM/ROM High-Speed Micro; PackageDocument: 1998; Published: 13-Oct-2000; LatestRevisionDate: 06-Jun-2005; LatestRevisionNote: Stylized 3D Model Added.; DatasheetDocument: 7-Jul-1998; PackageReference: DIP40B; Publisher: Altium Limited; ComponentLink1Description: Manufacturer Link; ComponentLink1URL: http://www.maxim-ic.com/; ComponentLink2Description: Datasheet; ComponentLink2URL: http://pdfserv.maxim-ic.com/en/ds/DS87C520.pdf; ComponentLink3Description: Discontinuation Notice; ComponentLink3URL: http://www.maxim-ic.com/qa/pdfs/non-obsolescence-letter.pdf
footprint DIP40B (DIP; 40 Leads; Row Spacing 15.24 mm; Pitch 2.54 mm)
3D model DIP40B (DIP; 40 Leads; Row Spacing 15.24 mm; Pitch 2.54 mm)
pins: 1 P1.0/T2 (io), 2 P1.1/T2EX (io), 3 P1.2/RXD1 (io), 4 P1.3/TXD1 (io), 5 P1.4/INT2 (io), 6 P1.5/~{INT}3 (io), 7 P1.6/INT4 (io), 8 P1.7/~{INT}5 (io), 9 RST (in), 10 P3.0/RXD0 (io), 11 P3.1/TXD0 (io), 12 P3.2/~{INT}0 (io), 13 P3.3/~{INT}1 (io), 14 P3.4/T0 (io), 15 P3.5/T1 (io), 16 P3.6/~{WR} (io), 17 P3.7/~{RD} (io), 18 X2 (out), 19 X1 (in), 20 GND (power), 21 P2.0/A8 (io), 22 P2.1/A9 (io), 23 P2.2/A10 (io), 24 P2.3/A11 (io), 25 P2.4/A12 (io), 26 P2.5/A13 (io), 27 P2.6/A14 (io), 28 P2.7/A15 (io), 29 ~{PSEN} (out), 30 ALE (out), 31 ~{EA} (in), 32 P0.7/AD7 (io), 33 P0.6/AD6 (io), 34 P0.5/AD5 (io), 35 P0.4/AD4 (io), 36 P0.3/AD3 (io), 37 P0.2/AD2 (io), 38 P0.1/AD1 (io), 39 P0.0/AD0 (io), 40 VCC (power)

## DS87C520-QCL
designator U?
EPROM/ROM High-Speed Micro; PackageDocument: 1999; Note: Pin numbers 12 and 34 are Not Connected (NC); Published: 13-Oct-2000; LatestRevisionDate: 06-Jun-2005; LatestRevisionNote: Stylized 3D Model Added.; DatasheetDocument: 7-Jul-1998; PackageReference: PLCC44; Publisher: Altium Limited; Code_IPC: PLCC-44; ComponentLink1Description: Manufacturer Link; ComponentLink1URL: http://www.maxim-ic.com/; ComponentLink2Description: Datasheet; ComponentLink2URL: http://pdfserv.maxim-ic.com/en/ds/DS87C520.pdf; ComponentLink3Description: Discontinuation Notice; ComponentLink3URL: http://www.maxim-ic.com/qa/pdfs/non-obsolescence-letter.pdf
footprint PLCC44 (Leaded Chip Carrier; 44 Leads; Body 16.5 x 16.5 mm)
3D model DS87C520-PLCC44 (Leaded Chip Carrier; 44 Leads; Body 16.5 x 16.5 mm)
pins: 1 GND (power), 2 P1.0/T2 (io), 3 P1.1 T2EX (io), 4 P1.2/RXD1 (io), 5 P1.3/TXD1 (io), 6 P1.4/INT2 (io), 7 P1.5/~{INT}3 (io), 8 P1.6/INT4 (io), 9 P1.7/~{INT}5 (io), 10 RST (in), 11 P3.0/RXD0 (io), 12 NC, 13 P3.1/TXD0 (io), 14 P3.2/~{INT}0 (io), 15 P3.3/~{INT}1 (io), 16 P3.4/T0 (io), 17 P3.5/T1 (io), 18 P3.6/~{WR} (io), 19 P3.7/~{RD} (io), 20 X2 (out), 21 X1 (in), 22 GND (power), 23 GND (power), 24 P2.0/A8 (io), 25 P2.1/A9 (io), 26 P2.2/A10 (io), 27 P2.3/A11 (io), 28 P2.4/A12 (io), 29 P2.5/A13 (io), 30 P2.6/A14 (io), 31 P2.7/A15 (io), 32 ~{PSEN} (oc), 33 ALE (out), 34 NC, 35 ~{EA} (in), 36 P0.7/AD7 (io), 37 P0.6/AD6 (io), 38 P0.5/AD5 (io), 39 P0.4/AD4 (io), 40 P0.3/AD3 (io), 41 P0.2/AD2 (io), 42 P0.1/AD1 (io), 43 P0.0/AD0 (io), 44 VCC (power)

## DS87C520-QNL
designator U?
EPROM/ROM High-Speed Micro; PackageDocument: 1999; Note: Pin numbers 12 and 34 are Not Connected (NC); Published: 13-Oct-2000; LatestRevisionDate: 06-Jun-2005; LatestRevisionNote: Stylized 3D Model Added.; DatasheetDocument: 7-Jul-1998; PackageReference: PLCC44; Publisher: Altium Limited; Code_IPC: PLCC-44; ComponentLink1Description: Manufacturer Link; ComponentLink1URL: http://www.maxim-ic.com/; ComponentLink2Description: Datasheet; ComponentLink2URL: http://pdfserv.maxim-ic.com/en/ds/DS87C520.pdf; ComponentLink3Description: Discontinuation Notice; ComponentLink3URL: http://www.maxim-ic.com/qa/pdfs/non-obsolescence-letter.pdf
footprint PLCC44 (Leaded Chip Carrier; 44 Leads; Body 16.5 x 16.5 mm)
3D model DS87C520-PLCC44 (Leaded Chip Carrier; 44 Leads; Body 16.5 x 16.5 mm)
pins: 1 GND (power), 2 P1.0/T2 (io), 3 P1.1 T2EX (io), 4 P1.2/RXD1 (io), 5 P1.3/TXD1 (io), 6 P1.4/INT2 (io), 7 P1.5/~{INT}3 (io), 8 P1.6/INT4 (io), 9 P1.7/~{INT}5 (io), 10 RST (in), 11 P3.0/RXD0 (io), 12 NC, 13 P3.1/TXD0 (io), 14 P3.2/~{INT}0 (io), 15 P3.3/~{INT}1 (io), 16 P3.4/T0 (io), 17 P3.5/T1 (io), 18 P3.6/~{WR} (io), 19 P3.7/~{RD} (io), 20 X2 (out), 21 X1 (in), 22 GND (power), 23 GND (power), 24 P2.0/A8 (io), 25 P2.1/A9 (io), 26 P2.2/A10 (io), 27 P2.3/A11 (io), 28 P2.4/A12 (io), 29 P2.5/A13 (io), 30 P2.6/A14 (io), 31 P2.7/A15 (io), 32 ~{PSEN} (oc), 33 ALE (out), 34 NC, 35 ~{EA} (in), 36 P0.7/AD7 (io), 37 P0.6/AD6 (io), 38 P0.5/AD5 (io), 39 P0.4/AD4 (io), 40 P0.3/AD3 (io), 41 P0.2/AD2 (io), 42 P0.1/AD1 (io), 43 P0.0/AD0 (io), 44 VCC (power)

## DS87C520-WCL
designator U?
EPROM/ROM High-Speed Micro; PackageDocument: 1998; Published: 13-Oct-2000; LatestRevisionDate: 06-Jun-2005; LatestRevisionNote: Stylized 3D Model Added.; DatasheetDocument: 7-Jul-1998; PackageReference: CERDIP40; Publisher: Altium Limited; Code_JEDEC: MS-011-AC; ComponentLink1Description: Manufacturer Link; ComponentLink1URL: http://www.maxim-ic.com/; ComponentLink2Description: Datasheet; ComponentLink2URL: http://pdfserv.maxim-ic.com/en/ds/DS87C520.pdf
footprint CERDIP40 (DIP; 40 Leads; Row Spacing 15.24 mm; Pitch 2.54 mm)
3D model CERDIP40 (DIP; 40 Leads; Row Spacing 15.24 mm; Pitch 2.54 mm)
pins: 1 P1.0/T2 (io), 2 P1.1/T2EX (io), 3 P1.2/RXD1 (io), 4 P1.3/TXD1 (io), 5 P1.4/INT2 (io), 6 P1.5/~{INT}3 (io), 7 P1.6/INT4 (io), 8 P1.7/~{INT}5 (io), 9 RST (in), 10 P3.0/RXD0 (io), 11 P3.1/TXD0 (io), 12 P3.2/~{INT}0 (io), 13 P3.3/~{INT}1 (io), 14 P3.4/T0 (io), 15 P3.5/T1 (io), 16 P3.6/~{WR} (io), 17 P3.7/~{RD} (io), 18 X2 (out), 19 X1 (in), 20 GND (power), 21 P2.0/A8 (io), 22 P2.1/A9 (io), 23 P2.2/A10 (io), 24 P2.3/A11 (io), 25 P2.4/A12 (io), 26 P2.5/A13 (io), 27 P2.6/A14 (io), 28 P2.7/A15 (io), 29 ~{PSEN} (out), 30 ALE (out), 31 ~{EA} (in), 32 P0.7/AD7 (io), 33 P0.6/AD6 (io), 34 P0.5/AD5 (io), 35 P0.4/AD4 (io), 36 P0.3/AD3 (io), 37 P0.2/AD2 (io), 38 P0.1/AD1 (io), 39 P0.0/AD0 (io), 40 VCC (power)

## DS87C530-KCL
designator U?
EPROM/ROM Micro with Real-Time Clock; Note: Pin numbers 2, 11, 13, 14, 40 and 41 are Not Connected (NC); Published: 13-Oct-2000; LatestRevisionDate: 06-Jun-2005; LatestRevisionNote: Stylized 3D Model Added.; DatasheetDocument: 8-Jul-1998; PackageDocument: Jul-1998; PackageReference: CERQUAD52; Publisher: Altium Limited; ComponentLink1Description: Manufacturer Link; ComponentLink1URL: http://www.maxim-ic.com/; ComponentLink2Description: Datasheet; ComponentLink2URL: http://pdfserv.maxim-ic.com/en/ds/DS87C530.pdf; ComponentLink3Description: Discontinuation Notice; ComponentLink3URL: http://www.maxim-ic.com/qa/pdfs/non-obsolescence-letter.pdf
footprint CERQUAD52 (Leaded Chip Carrier; 52 Leads; Body 19 x 19 mm)
3D model DS87C530-CERQUAD52 (Leaded Chip Carrier; 52 Leads; Body 19 x 19 mm)
pins: 1 GND (power), 2 NC, 3 P1.0/T2 (io), 4 P1.1/T2EX (io), 5 P1.2/RXD1 (io), 6 P1.3/TXD1 (io), 7 P1.4/INT2 (io), 8 P1.5/~{INT}3 (io), 9 P1.6/INT4 (io), 10 P1.7/~{INT}5 (io), 11 NC, 12 RST (in), 13 NC, 14 NC, 15 P3.0/RXD0 (io), 16 P3.1/TXD0 (io), 17 P3.2/~{INT}0 (io), 18 P3.3/~{INT}1 (io), 19 P3.4/T0 (io), 20 P3.5/T1 (io), 21 P3.6/~{WR} (io), 22 P3.7/~{RD} (io), 23 X2 (out), 24 X1 (in), 25 GND (power), 26 GND2 (power), 27 RTCX2 (io), 28 RTCX1 (io), 29 VCC2 (power), 30 P2.0/AD8 (io), 31 P2.1/AD9 (io), 32 P2.2/AD10 (io), 33 P2.3/AD11 (io), 34 P2.4/AD12 (io), 35 P2.5/AD13 (io), 36 P2.6/AD14 (io), 37 P2.7/AD15 (io), 38 ~{PSEN} (out), 39 ALE (out), 40 NC, 41 NC, 42 ~{EA} (in), 43 P0.7/AD7 (io), 44 P0.6/AD6 (io), 45 P0.5/AD5 (io), 46 P0.4/AD4 (io), 47 P0.3/AD3 (io), 48 P0.2/AD2 (io), 49 P0.1/AD1 (io), 50 P0.0/AD0 (io), 51 VBAT (power), 52 VCC (power)

## DS87C530-QCL
designator U?
EPROM/ROM Micro with Real-Time Clock; Note: Pin numbers 2, 11, 13, 14, 40 and 41 are Not Connected (NC); Published: 13-Oct-2000; LatestRevisionDate: 06-Jun-2005; LatestRevisionNote: Stylized 3D Model Added.; DatasheetDocument: 8-Jul-1998; PackageDocument: Jul-1998; PackageReference: PLCC52; Publisher: Altium Limited; Code_IPC: PLCC-52; ComponentLink1Description: Manufacturer Link; ComponentLink1URL: http://www.maxim-ic.com/; ComponentLink2Description: Datasheet; ComponentLink2URL: http://pdfserv.maxim-ic.com/en/ds/DS87C530.pdf; ComponentLink3Description: Discontinuation Notice; ComponentLink3URL: http://www.maxim-ic.com/qa/pdfs/non-obsolescence-letter.pdf
footprint PLCC52 (Leaded Chip Carrier; 52 Leads; Body 19 x 19 mm)
3D model DS87C530-PLCC52 (Leaded Chip Carrier; 52 Leads; Body 19 x 19 mm)
pins: 1 GND (power), 2 NC, 3 P1.0/T2 (io), 4 P1.1/T2EX (io), 5 P1.2/RXD1 (io), 6 P1.3/TXD1 (io), 7 P1.4/INT2 (io), 8 P1.5/~{INT}3 (io), 9 P1.6/INT4 (io), 10 P1.7/~{INT}5 (io), 11 NC, 12 RST (in), 13 NC, 14 NC, 15 P3.0/RXD0 (io), 16 P3.1/TXD0 (io), 17 P3.2/~{INT}0 (io), 18 P3.3/~{INT}1 (io), 19 P3.4/T0 (io), 20 P3.5/T1 (io), 21 P3.6/~{WR} (io), 22 P3.7/~{RD} (io), 23 X2 (out), 24 X1 (in), 25 GND (power), 26 GND2 (power), 27 RTCX2 (io), 28 RTCX1 (io), 29 VCC2 (power), 30 P2.0/AD8 (io), 31 P2.1/AD9 (io), 32 P2.2/AD10 (io), 33 P2.3/AD11 (io), 34 P2.4/AD12 (io), 35 P2.5/AD13 (io), 36 P2.6/AD14 (io), 37 P2.7/AD15 (io), 38 ~{PSEN} (out), 39 ALE (out), 40 NC, 41 NC, 42 ~{EA} (in), 43 P0.7/AD7 (io), 44 P0.6/AD6 (io), 45 P0.5/AD5 (io), 46 P0.4/AD4 (io), 47 P0.3/AD3 (io), 48 P0.2/AD2 (io), 49 P0.1/AD1 (io), 50 P0.0/AD0 (io), 51 VBAT (power), 52 VCC (power)

## DS87C530-QNL
designator U?
EPROM/ROM Micro with Real-Time Clock; Note: Pin numbers 2, 11, 13, 14, 40 and 41 are Not Connected (NC); Published: 13-Oct-2000; LatestRevisionDate: 06-Jun-2005; LatestRevisionNote: Stylized 3D Model Added.; DatasheetDocument: 8-Jul-1998; PackageDocument: Jul-1998; PackageReference: PLCC52; Publisher: Altium Limited; Code_IPC: PLCC-52; ComponentLink1Description: Manufacturer Link; ComponentLink1URL: http://www.maxim-ic.com/; ComponentLink2Description: Datasheet; ComponentLink2URL: http://pdfserv.maxim-ic.com/en/ds/DS87C530.pdf; ComponentLink3Description: Discontinuation Notice; ComponentLink3URL: http://www.maxim-ic.com/qa/pdfs/non-obsolescence-letter.pdf
footprint PLCC52 (Leaded Chip Carrier; 52 Leads; Body 19 x 19 mm)
3D model DS87C530-PLCC52 (Leaded Chip Carrier; 52 Leads; Body 19 x 19 mm)
pins: 1 GND (power), 2 NC, 3 P1.0/T2 (io), 4 P1.1/T2EX (io), 5 P1.2/RXD1 (io), 6 P1.3/TXD1 (io), 7 P1.4/INT2 (io), 8 P1.5/~{INT}3 (io), 9 P1.6/INT4 (io), 10 P1.7/~{INT}5 (io), 11 NC, 12 RST (in), 13 NC, 14 NC, 15 P3.0/RXD0 (io), 16 P3.1/TXD0 (io), 17 P3.2/~{INT}0 (io), 18 P3.3/~{INT}1 (io), 19 P3.4/T0 (io), 20 P3.5/T1 (io), 21 P3.6/~{WR} (io), 22 P3.7/~{RD} (io), 23 X2 (out), 24 X1 (in), 25 GND (power), 26 GND2 (power), 27 RTCX2 (io), 28 RTCX1 (io), 29 VCC2 (power), 30 P2.0/AD8 (io), 31 P2.1/AD9 (io), 32 P2.2/AD10 (io), 33 P2.3/AD11 (io), 34 P2.4/AD12 (io), 35 P2.5/AD13 (io), 36 P2.6/AD14 (io), 37 P2.7/AD15 (io), 38 ~{PSEN} (out), 39 ALE (out), 40 NC, 41 NC, 42 ~{EA} (in), 43 P0.7/AD7 (io), 44 P0.6/AD6 (io), 45 P0.5/AD5 (io), 46 P0.4/AD4 (io), 47 P0.3/AD3 (io), 48 P0.2/AD2 (io), 49 P0.1/AD1 (io), 50 P0.0/AD0 (io), 51 VBAT (power), 52 VCC (power)

## DS5000-8-8
designator U?
Soft Microcontroller; Published: 13-Oct-2000; LatestRevisionDate: 17-Jul-2002; LatestRevisionNote: PCB footprint, 'DIP-P40/X1.1' replaced; Re-released for DXP Platform.; DatasheetDocument: 21-Apr-1993; PackageReference: ENDIP40A; Publisher: Altium Limited; ComponentLink1Description: Manufacturer Link; ComponentLink1URL: http://www.maxim-ic.com/; ComponentLink2Description: Datasheet; ComponentLink2URL: http://pdfserv.maxim-ic.com/en/ds/DS5000T.pdf; ComponentLink3Description: Discontinuation Notice; ComponentLink3URL: http://www.maxim-ic.com/qa/pdfs/non-obsolescence-letter.pdf
footprint ENDIP40A (DIP; 40 Rectangular Pins; Row Space 15.24 mm; Pitch 2.54 mm)
pins: 1 P1.0 (io), 2 P1.1 (io), 3 P1.2 (io), 4 P1.3 (io), 5 P1.4 (io), 6 P1.5 (io), 7 P1.6 (io), 8 P1.7 (io), 9 RST (in), 10 P3.0/RXD (io), 11 P3.1/TXD (io), 12 P3.2/~{INT}0 (io), 13 P3.3/~{INT}1 (io), 14 P3.4/T0 (io), 15 P3.5/T1 (io), 16 P3.6/~{WR} (io), 17 P3.7/~{RD} (io), 18 X2 (in), 19 X1 (in), 20 GND (power), 21 P2.0/A8 (io), 22 P2.1/A9 (io), 23 P2.2/A10 (io), 24 P2.3/A11 (io), 25 P2.4/A12 (io), 26 P2.5/A13 (io), 27 P2.6/A14 (io), 28 P2.7/A15 (io), 29 ~{PSEN} (io), 30 ALE (out), 31 ~{EA} (in), 32 P0.7/AD7 (io), 33 P0.6/AD6 (io), 34 P0.5/AD5 (io), 35 P0.4/AD4 (io), 36 P0.3/AD3 (io), 37 P0.2/AD2 (io), 38 P0.1/AD1 (io), 39 P0.0/AD0 (io), 40 VCC (power)

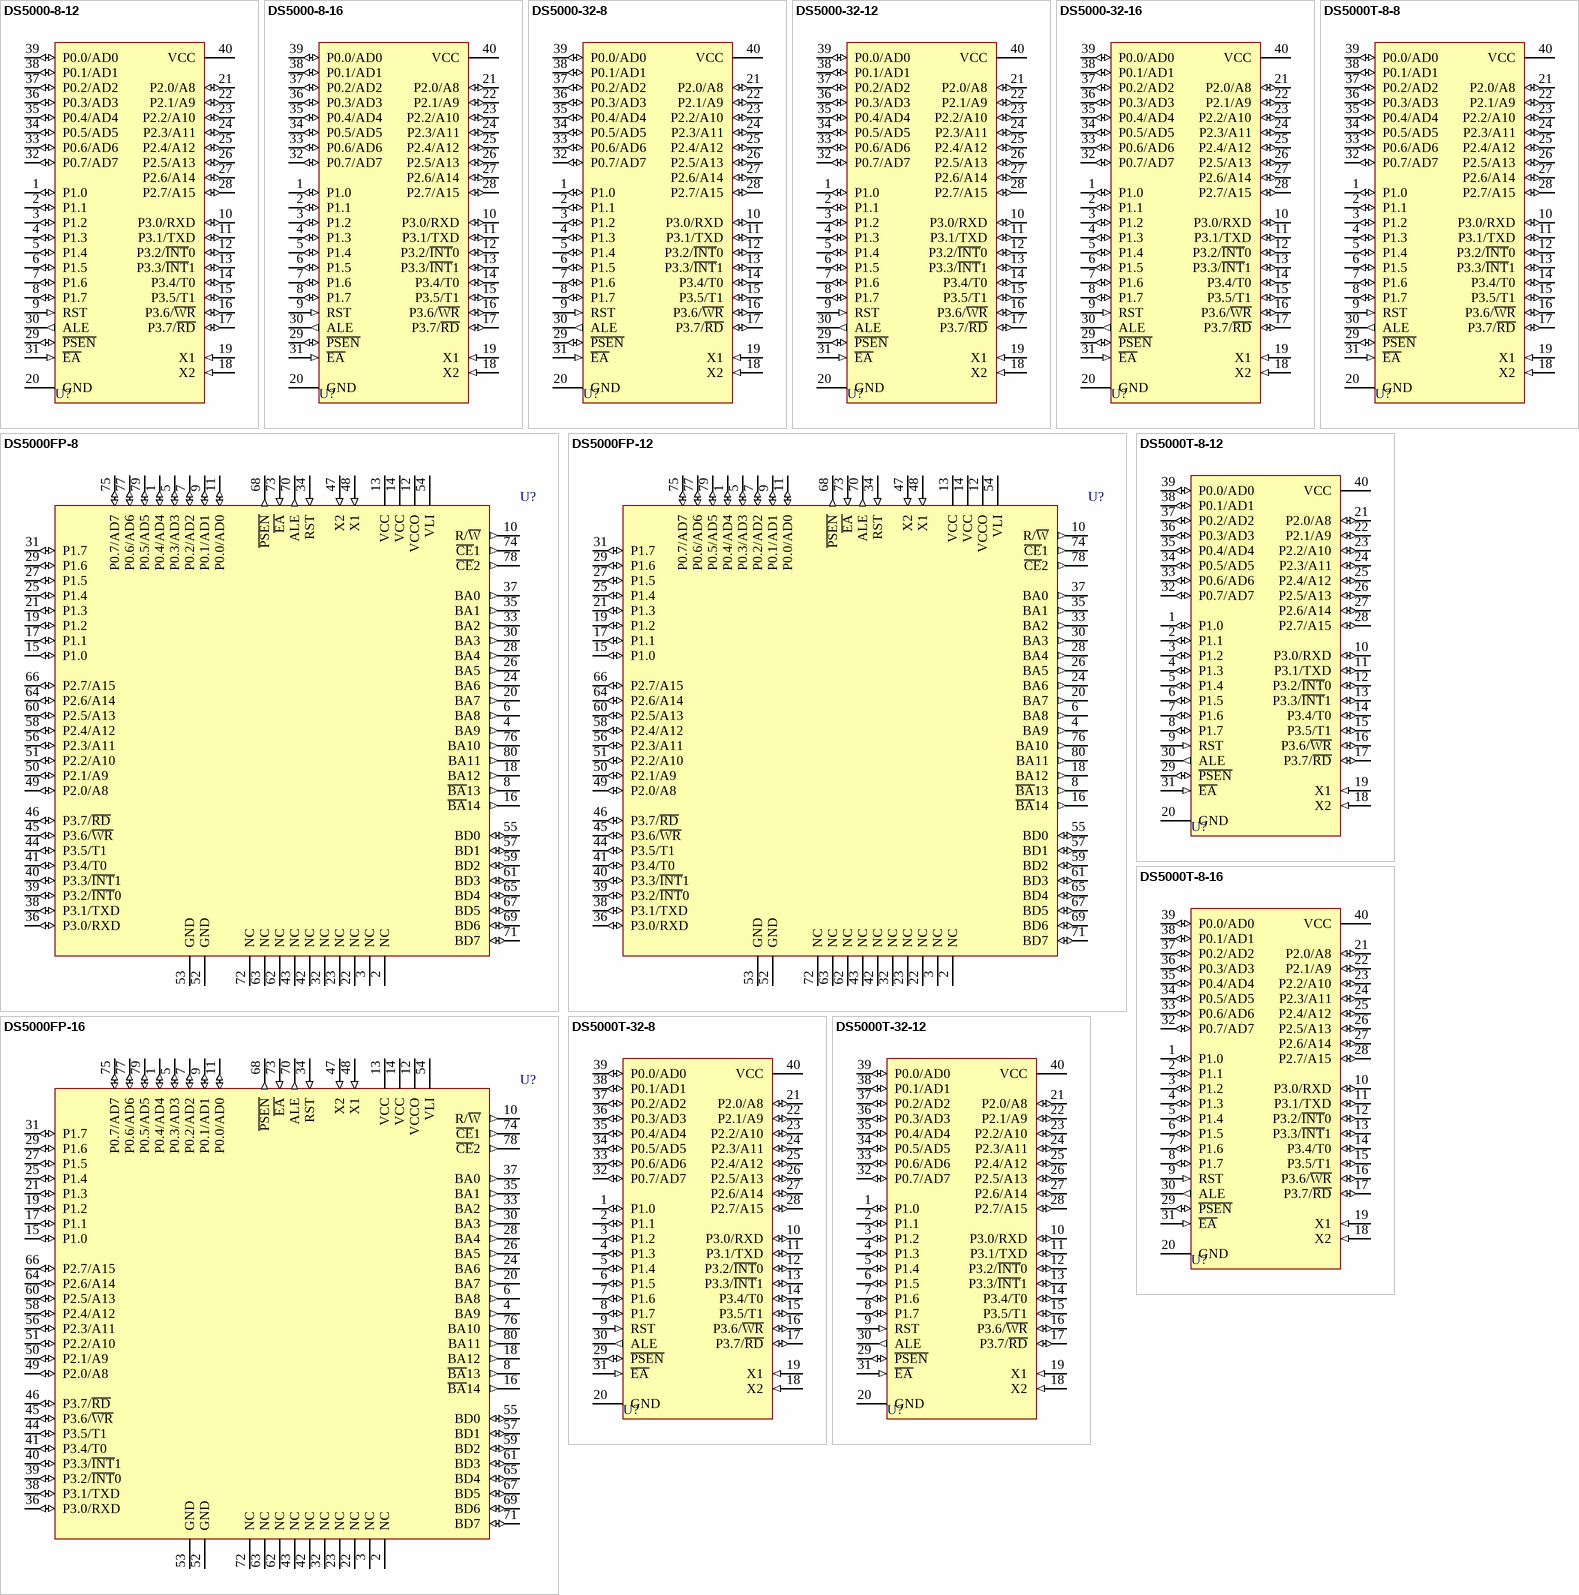
[diagram p3: symbols DS5000-8-12 to DS5000T-32-12]

## DS5000-8-12
designator U?
Soft Microcontroller; Published: 13-Oct-2000; LatestRevisionDate: 17-Jul-2002; LatestRevisionNote: PCB footprint, 'DIP-P40/X1.1' replaced; Re-released for DXP Platform.; DatasheetDocument: 21-Apr-1993; PackageReference: ENDIP40A; Publisher: Altium Limited; ComponentLink1Description: Manufacturer Link; ComponentLink1URL: http://www.maxim-ic.com/; ComponentLink2Description: Datasheet; ComponentLink2URL: http://pdfserv.maxim-ic.com/en/ds/DS5000T.pdf; ComponentLink3Description: Discontinuation Notice; ComponentLink3URL: http://www.maxim-ic.com/qa/pdfs/non-obsolescence-letter.pdf
footprint ENDIP40A (DIP; 40 Rectangular Pins; Row Space 15.24 mm; Pitch 2.54 mm)
pins: 1 P1.0 (io), 2 P1.1 (io), 3 P1.2 (io), 4 P1.3 (io), 5 P1.4 (io), 6 P1.5 (io), 7 P1.6 (io), 8 P1.7 (io), 9 RST (in), 10 P3.0/RXD (io), 11 P3.1/TXD (io), 12 P3.2/~{INT}0 (io), 13 P3.3/~{INT}1 (io), 14 P3.4/T0 (io), 15 P3.5/T1 (io), 16 P3.6/~{WR} (io), 17 P3.7/~{RD} (io), 18 X2 (in), 19 X1 (in), 20 GND (power), 21 P2.0/A8 (io), 22 P2.1/A9 (io), 23 P2.2/A10 (io), 24 P2.3/A11 (io), 25 P2.4/A12 (io), 26 P2.5/A13 (io), 27 P2.6/A14 (io), 28 P2.7/A15 (io), 29 ~{PSEN} (io), 30 ALE (out), 31 ~{EA} (in), 32 P0.7/AD7 (io), 33 P0.6/AD6 (io), 34 P0.5/AD5 (io), 35 P0.4/AD4 (io), 36 P0.3/AD3 (io), 37 P0.2/AD2 (io), 38 P0.1/AD1 (io), 39 P0.0/AD0 (io), 40 VCC (power)